# Altium schematic symbol library Evaluation Board.SchLib: 189 symbols (part 1 of 2)
Pins are listed as number, name and electrical type; pins without a type are passive.

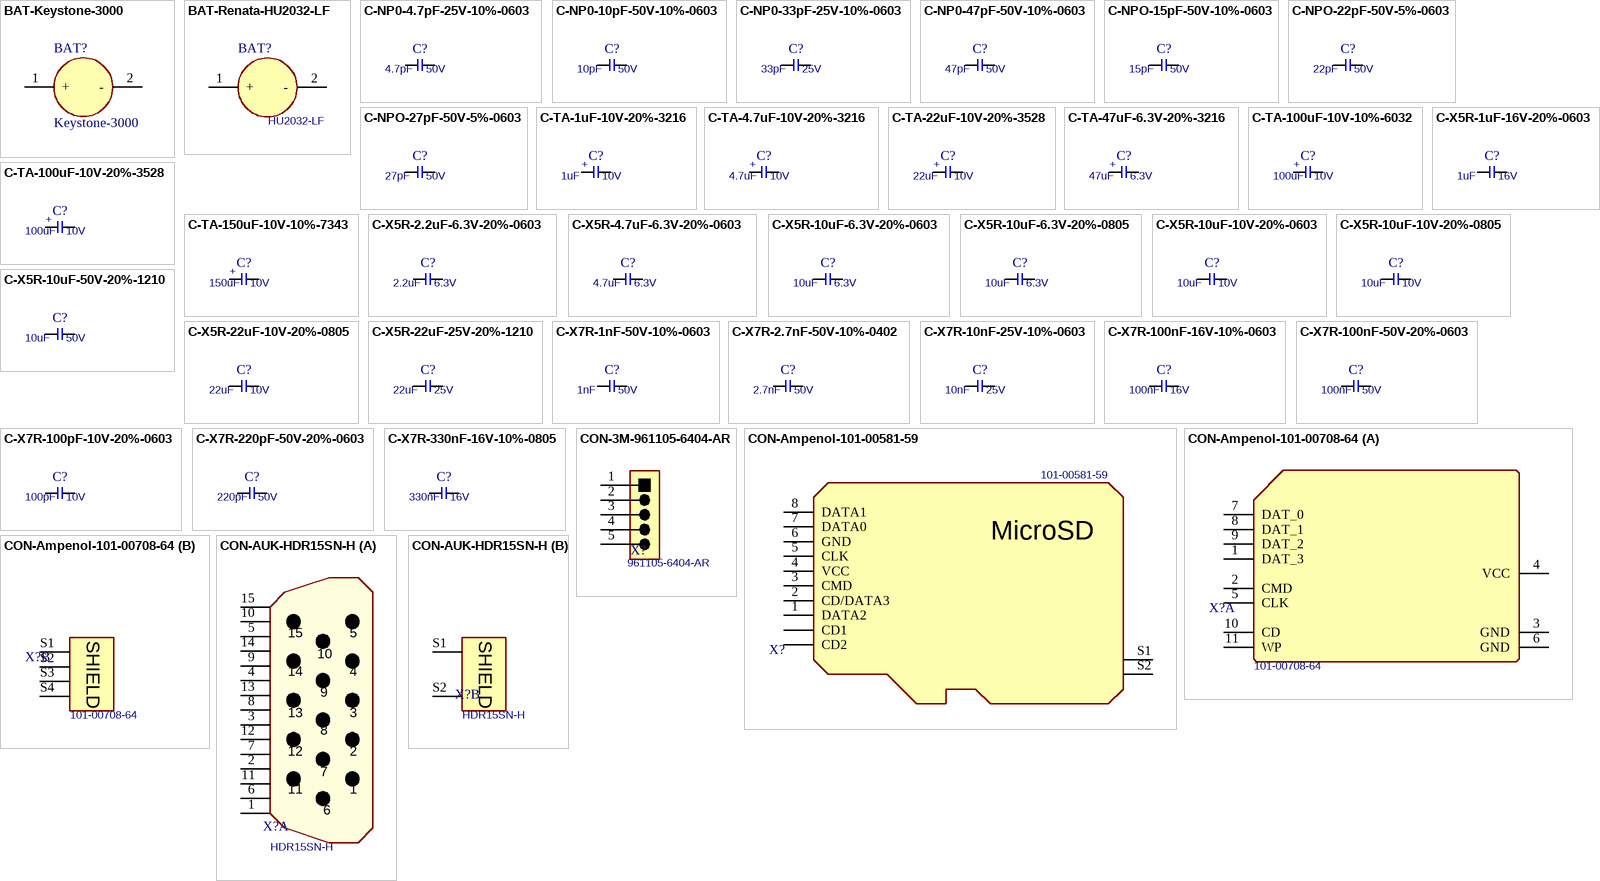
[diagram p0: symbols BAT-Keystone-3000 to CON-AUK-HDR15SN-H]

## BAT-Keystone-3000
designator BAT?, comment Keystone-3000
Battery Holder; Manufacturer Part No.: 3000; Manufacturer Name: Keystone
footprint T_Keystone_3000 (Battery Holder)
pins: 1 +, 2 -

## BAT-Renata-HU2032-LF
designator BAT?, comment HU2032-LF
C2032 Battery Holder; Manufacturer Name: Renata; Manufacturer Part No.: HU2032-LF
footprint T_Renata_HU2032-LF (Battery Holder)
pins: 1 +, 2 -

## C-NP0-4.7pF-25V-10%-0603
designator C?, comment Rating: 50V  (hidden comment: 4.7pF)
Capacitor Ceramic NP0  4.7pF 25V 10% 0603; Tolerance: 10%; Type: NP0; Value: 4.7pF
footprint T_CAPC0603X33N
pins: 1, 2

## C-NP0-10pF-50V-10%-0603
designator C?, comment Rating: 50V  (hidden comment: 10pF)
Capacitor Ceramic NP0 10pF 50V 10% 0603; Tolerance: 10%; Type: NP0; Value: 10pF
footprint T_CAPC0603X33N
pins: 1, 2

## C-NP0-33pF-25V-10%-0603
designator C?, comment Rating: 25V  (hidden comment: 33pF)
Capacitor Ceramic NP0 33pF 25V 10% 0603; Tolerance: 10%; Type: NP0; Value: 33pF
footprint T_CAPC0603X33N
pins: 1, 2

## C-NP0-47pF-50V-10%-0603
designator C?, comment Rating: 50V  (hidden comment: 47pF)
Capacitor Ceramic NP0 47pF 50V 10% 0603; Tolerance: 10%; Type: NP0; Value: 47pF
footprint T_CAPC0603X33N
pins: 1, 2

## C-NPO-15pF-50V-10%-0603
designator C?, comment Rating: 50V  (hidden comment: 15pF)
Capacitor Ceramic NPO 15pF 50V 10% 0603; Tolerance: 10%; Type: NPO; Value: 15pF
footprint T_CAPC0603X33N
pins: 1, 2

## C-NPO-22pF-50V-5%-0603
designator C?, comment Rating: 50V  (hidden comment: 22pF)
Capacitor Ceramic NPO 22pF 50V 5% 0603; Tolerance: 5%; Type: NPO; Value: 22pF
footprint T_CAPC0603X33N
pins: 1, 2

## C-NPO-27pF-50V-5%-0603
designator C?, comment Rating: 50V  (hidden comment: 27pF)
Capacitor Ceramic NPO 27pF 50V 5% 0603; Tolerance: 5%; Type: NPO; Value: 27pF
footprint T_CAPC0603X33N
pins: 1, 2

## C-TA-1uF-10V-20%-3216
designator C?, comment Rating: 10V  (hidden comment: 1uF)
Capacitor TA 1uF 10V 20% 3216; Tolerance: 20%; Type: TA; Value: 1uF
footprint T_CAPMP3216X180N
pins: 1, 2
text: +

## C-TA-4.7uF-10V-20%-3216
designator C?, comment Rating: 10V  (hidden comment: 4.7uF)
Capacitor TA 4.7uF 10V 20% 3216; Tolerance: 20%; Type: TA; Value: 4.7uF
footprint T_CAPMP3216X180N
pins: 1, 2
text: +

## C-TA-22uF-10V-20%-3528
designator C?, comment Rating: 10V  (hidden comment: 22uF)
Capacitor TA 22uF 10V 20% 3528; Tolerance: 20%; Type: TA; Value: 22uF
footprint CAPMP3528X210N
pins: 1, 2
text: +

## C-TA-47uF-6.3V-20%-3216
designator C?, comment Rating: 6.3V  (hidden comment: 47uF)
Capacitor TA 47uF 6.3V 20% 3216; Tolerance: 20%; Type: TA; Value: 47uF
footprint CAPMP3528X210N
pins: 1, 2
text: +

## C-TA-100uF-10V-10%-6032
designator C?, comment Rating: 10V  (hidden comment: 100uF)
Capacitor TA 100uF 10V 10% 6032; Tolerance: 10%; Type: TA; Value: 100uF
footprint CAPMP6032X280N (Cap Polarized 6032)
pins: 1, 2
text: +

## C-TA-100uF-10V-20%-3528
designator C?, comment Rating: 10V  (hidden comment: 100uF)
Capacitor TA 100uF 10V 20% 3528; Tolerance: 20%; Type: TA; Value: 100uF
footprint CAPMP3528X210N
pins: 1, 2
text: +

## C-TA-150uF-10V-10%-7343
designator C?, comment Rating: 10V  (hidden comment: 150uF)
Capacitor TA 150uF 10V 20% 7343; Tolerance: 10%; Type: TA; Value: 150uF
footprint CAPMP7343X310N
pins: 1, 2
text: +

## C-X5R-1uF-16V-20%-0603
designator C?, comment Rating: 16V  (hidden comment: 1uF)
Capacitor Ceramic X5R 1uF 16V 20% 0603; Tolerance: 20%; Type: X5R; Value: 1uF
footprint T_CAPC0603X33N
pins: 1, 2

## C-X5R-2.2uF-6.3V-20%-0603
designator C?, comment Rating: 6.3V  (hidden comment: 2.2uF)
Capacitor Ceramic X5R 2.2uF 6.3V 20% 0603; Tolerance: 20%; Type: X5R; Value: 2.2uF
footprint T_CAPC0603X33N
pins: 1, 2

## C-X5R-4.7uF-6.3V-20%-0603
designator C?, comment Rating: 6.3V  (hidden comment: 4.7uF)
Capacitor Ceramic X5R 4.7uF 6.3V 20% 0603; Tolerance: 20%; Type: X5R; Value: 4.7uF
footprint T_CAPC0603X33N
pins: 1, 2

## C-X5R-10uF-6.3V-20%-0603
designator C?  value 10uF  Rating: 6.3V
Capacitor Ceramic X5R 10uF 6.3V 20% 0603; Tolerance: 20%; Type: X5R
footprint T_CAPC0603X33N
pins: 1, 2

## C-X5R-10uF-6.3V-20%-0805
designator C?, comment Rating: 6.3V  (hidden comment: 10uF)
Capacitor Ceramic X5R 10uF 6.3V 20% 0805; Tolerance: 20%; Type: X5R; Value: 10uF
footprint T_CAPC0805X125N
pins: 1, 2

## C-X5R-10uF-10V-20%-0603
designator C?  value 10uF  Rating: 10V
Capacitor Ceramic X5R 10uF 10V 20% 0603; Tolerance: 20%; Type: X5R
footprint T_CAPC0603X33N
pins: 1, 2

## C-X5R-10uF-10V-20%-0805
designator C?, comment Rating: 10V  (hidden comment: 10uF)
Capacitor Ceramic X5R 10uF 10V 20% 0805; Tolerance: 20%; Type: X5R; Value: 10uF
footprint T_CAPC0805X125N
pins: 1, 2

## C-X5R-10uF-50V-20%-1210
designator C?, comment Rating: 50V  (hidden comment: 10uF)
Capacitor Ceramic X5R 10uF 50V 20% 1210; Tolerance: 20%; Type: X5R; Value: 10uF
footprint CAPC3225X160N
pins: 1, 2

## C-X5R-22uF-10V-20%-0805
designator C?, comment Rating: 10V  (hidden comment: 22uF)
Capacitor Ceramic X5R 22uF 10V 20% 0805; Tolerance: 20%; Type: X5R; Value: 22uF
footprint T_CAPC0805X125N
pins: 1, 2

## C-X5R-22uF-25V-20%-1210
designator C?, comment Rating: 25V  (hidden comment: 22uF)
Capacitor Ceramic X5R 22uF 25V 20% 1210; Tolerance: 20%; Type: X5R; Value: 22uF
footprint CAPC3225X160N
pins: 1, 2

## C-X7R-1nF-50V-10%-0603
designator C?, comment Rating: 50V  (hidden comment: 1nF)
Capacitor Ceramic X7R 1nF 50V 10% 0603; Tolerance: 10%; Type: X7R; Value: 1nF
footprint T_CAPC0603X33N
pins: 1, 2

## C-X7R-2.7nF-50V-10%-0402
designator C?, comment Rating: 50V  (hidden comment: 2.7nF)
Capacitor Ceramic X7R 2.7nF 50V 10% 0402; Tolerance: 10%; Type: X7R; Value: 2.7nF
footprint CAPC1005X60N
pins: 1, 2

## C-X7R-10nF-25V-10%-0603
designator C?, comment Rating: 25V  (hidden comment: 10nF)
Capacitor Ceramic X7R 10nF 25V 10% 0603; Tolerance: 10%; Type: X7R; Value: 10nF
footprint T_CAPC0603X33N
pins: 1, 2

## C-X7R-100nF-16V-10%-0603
designator C?, comment Rating: 16V  (hidden comment: 100nF)
Capacitor Ceramic X7R 100nF 16V 10% 0603; Tolerance: 10%; Type: X7R; Value: 100nF
footprint T_CAPC0603X33N
pins: 1, 2

## C-X7R-100nF-50V-20%-0603
designator C?, comment Rating: 50V  (hidden comment: 100nF)
Capacitor Ceramic X7R 100nF 50V 20% 0603; Tolerance: 20%; Type: X7R; Value: 100nF
footprint T_CAPC0603X33N
pins: 1, 2

## C-X7R-100pF-10V-20%-0603
designator C?, comment Rating: 10V  (hidden comment: 100pF)
Capacitor Ceramic X7R 100pF 10V 20% 0603; Tolerance: 20%; Type: X7R; Value: 100pF
footprint T_CAPC0603X33N
pins: 1, 2

## C-X7R-220pF-50V-20%-0603
designator C?, comment Rating: 50V  (hidden comment: 220pF)
Capacitor Ceramic X7R 220pF 50V 20% 0603; Tolerance: 20%; Type: X7R; Value: 220pF
footprint T_CAPC0603X33N
pins: 1, 2

## C-X7R-330nF-16V-10%-0805
designator C?, comment Rating: 16V  (hidden comment: 330nF)
Capacitor Ceramic X7R 330nF 16V 10% 0805; Tolerance: 10%; Type: X7R; Value: 330nF
footprint T_CAPC0805X125N
pins: 1, 2

## CON-3M-961105-6404-AR
designator X?, comment 961105-6404-AR
Audio Header 5 pins 2.54mm; Manufacturer Name: 3M; No. of ways: 1X5; Pitch: 2.54mm; Manufacturer Part No.: 961105-6404-AR
footprint T_3M_961105-6404-AR (Connector; Header; 35 Position)
pins: 1, 2, 3, 4, 5

## CON-Ampenol-101-00581-59
designator X?, comment Manufacturer Part No.: 101-00581-59  (hidden comment: MicroSD Holder)
Micro SD Holder Push Push CD; Manufacturer Name: Ampenol; No. of ways: 9
footprint T_Ampenol_101-00581-59 (MicroSD Holder top-loading type)
pins: 1 DATA2 (power), 2 CD/DATA3, 3 CMD, 4 VCC, 5 CLK (power), 6 GND (power), 7 DATA0 (power), 8 DATA1 (power), CD1 (power), CD2 (power), S1 S, S2 S
text: MicroSD

## CON-Ampenol-101-00708-64
designator X?, comment Manufacturer Part No.: 101-00708-64  (hidden comment: MicroSD Holder)
SD/MMC Card Holder; Manufacturer Name: Ampenol; No. of ways: 9
footprint T_ AMPHENOL_101-00708-64 (SD/MMC Card Holder)
part A pins: 1 DAT_3 (power), 2 CMD, 3 GND, 4 VCC, 5 CLK (power), 6 GND (power), 7 DAT_0 (power), 8 DAT_1 (power), 9 DAT_2 (power), 10 CD (power), 11 WP (power)
part B pins: S1 S, S2 S, S3 S, S4 S
part B text: SHIELD

## CON-AUK-HDR15SN-H
designator X?, comment HDR15SN-H
15 pin male D-SUB connector; Manufacturer Name: AUK; No. of ways: 15; Manufacturer Part No.: HDR15SN-H
footprint T_AUK_HDR15SN-H (15 pin male D-SUB connector)
part A pins: 1 DCD, 2 RXD, 3 TXD, 4 DTR, 5 GND, 6 DSR, 7 RTS, 8 CTS, 9 RI, 10 RI, 11 RI, 12 RI, 13 RI, 14 RI, 15 RI
part B pins: S1 SHIELD, S2 SHIELD

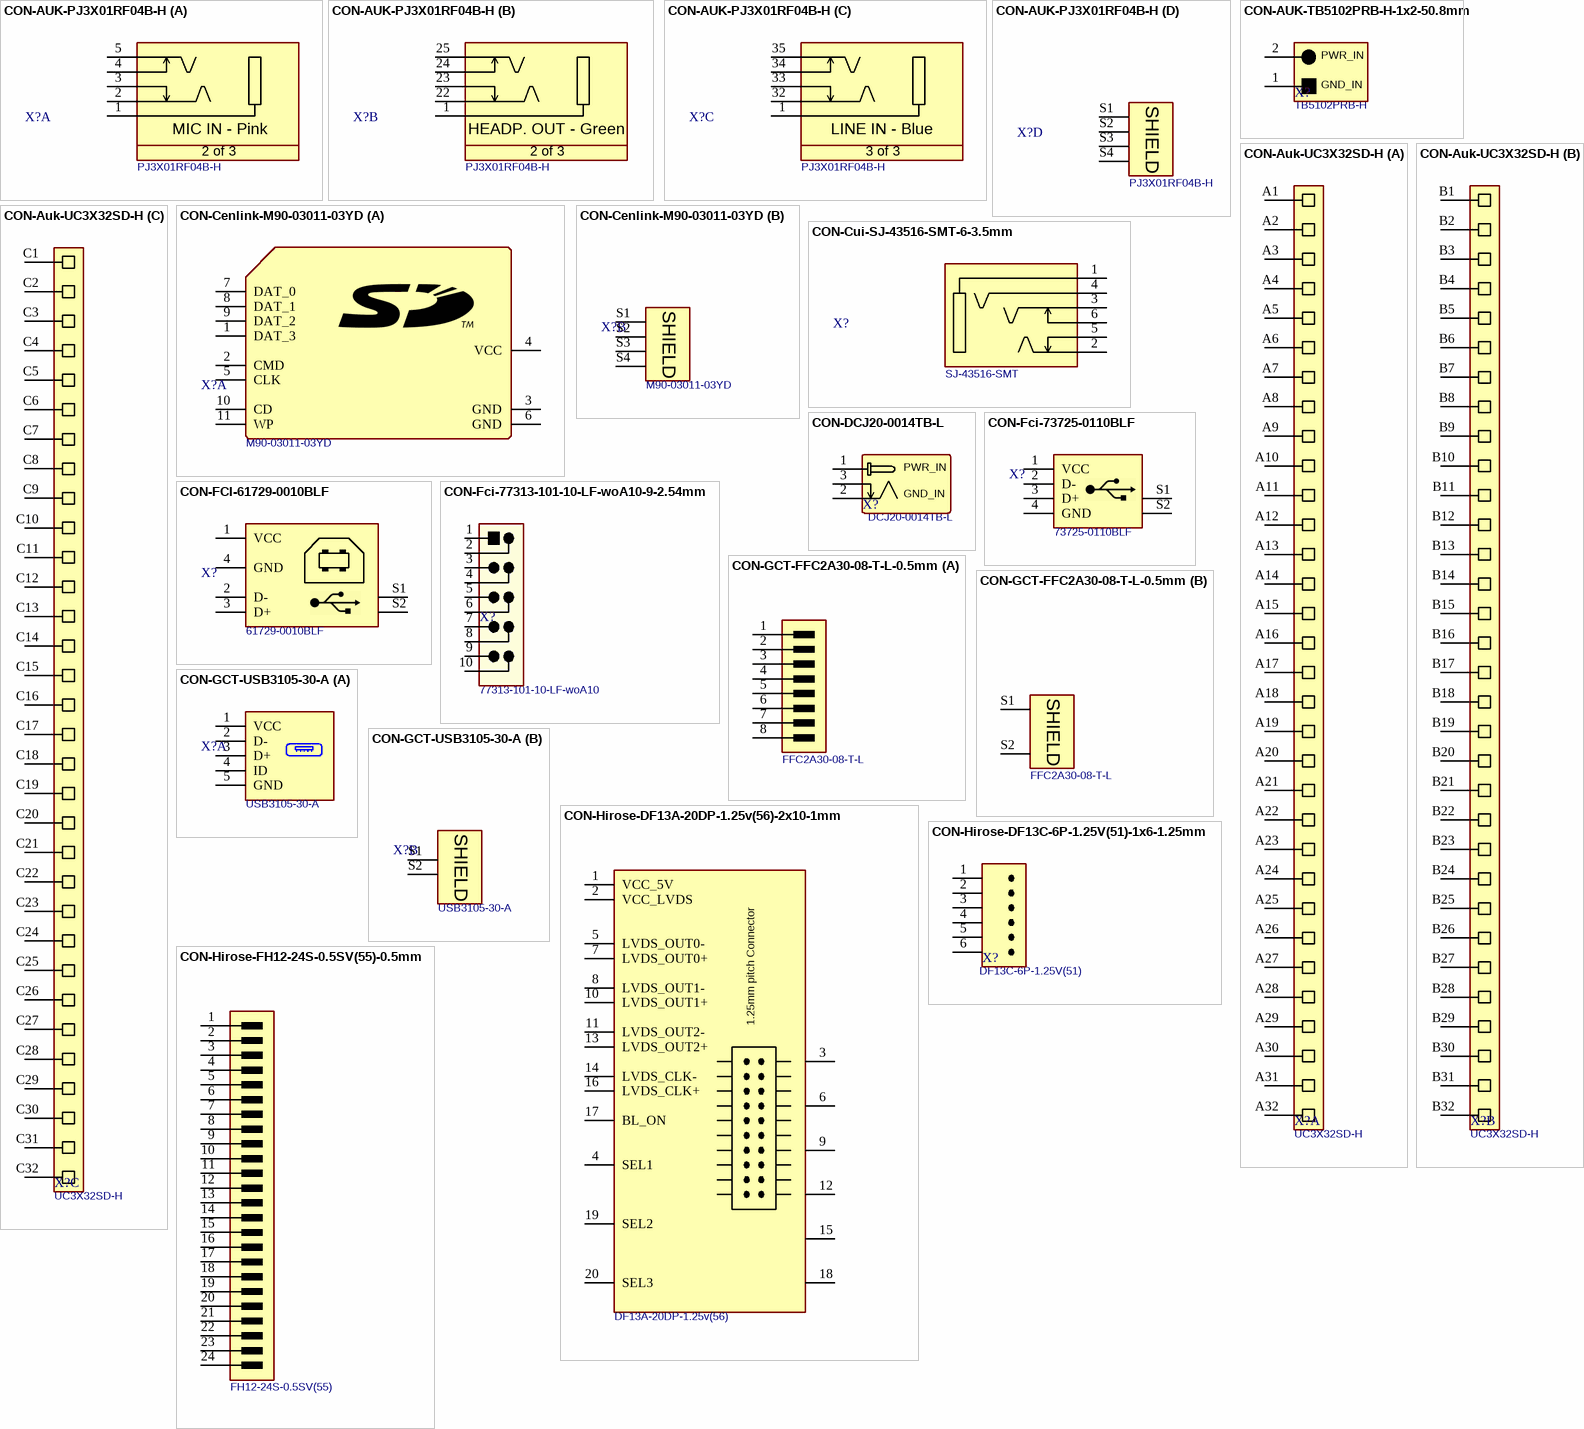
[diagram p1: symbols CON-AUK-PJ3X01RF04B-H to CON-Hirose-FH12-24S-0.5SV(55)-0.5mm]

## CON-AUK-PJ3X01RF04B-H
designator X?, comment Manufacturer Part No.: PJ3X01RF04B-H  (hidden comment: AUK-PJ3X01RF04B-H)
3x Audiojack stereo, 3.5mm; Manufacturer Name: AUK; No. of ways: 13
footprint T_AUK_PJ3X01RF04B-H (Audio Jack Triple Stacked DIP Type)
part A pins: 1, 2, 3, 4, 5
part B pins: 1, 22, 23, 24, 25
part C pins: 1, 32, 33, 34, 35
part D pins: S1 SHIELD, S2 SHIELD, S3 SHIELD, S4 SHIELD
part A text: MIC IN - Pink; 2 of 3
part B text: HEADP. OUT - Green; 2 of 3
part C text: LINE IN - Blue; 3 of 3

## CON-AUK-TB5102PRB-H-1x2-50.8mm
designator X?, comment TB5102PRB-H
Power Connector; Manufacturer Name: AUK; No. of ways: 1x2; Pitch: 5.08mm; Manufacturer Part No.: TB5102PRB-H
footprint T_AUK_TB5102PRB-H (Power Connector 5.08mm pitch)
pins: 1 GND_IN, 2 PWR_IN

## CON-Auk-UC3X32SD-H
designator X?, comment UC3X32SD-H
Header Female 3x32 pin 2.54mm; Manufacturer Name: Auk; Pitch: 2.54mm; No. of ways: 3x32; Manufacturer Part No.: UC3X32SD-H
footprint T_AUK_UC3X32SD-H (Header, 3x32 Pins, 2.54 mm pitch)
part A pins: A1, A2, A3, A4, A5, A6, A7, A8, A9, A10, A11, A12, A13, A14, A15, A16, A17, A18, A19, A20, A21, A22, A23, A24, A25, A26, A27, A28, A29, A30, A31, A32
part B pins: B1, B2, B3, B4, B5, B6, B7, B8, B9, B10, B11, B12, B13, B14, B15, B16, B17, B18, B19, B20, B21, B22, B23, B24, B25, B26, B27, B28, B29, B30, B31, B32
part C pins: C1, C2, C3, C4, C5, C6, C7, C8, C9, C10, C11, C12, C13, C14, C15, C16, C17, C18, C19, C20, C21, C22, C23, C24, C25, C26, C27, C28, C29, C30, C31, C32

## CON-Cenlink-M90-03011-03YD
designator X?, comment Manufacturer Part No.: M90-03011-03YD  (hidden comment: MicroSD Holder)
SD/MMC Card Holder; Manufacturer Name: Cenlink; No. of ways: 9+2
footprint T_ AMPHENOL_101-00708-64 (SD/MMC Card Holder)
part A pins: 1 DAT_3 (power), 2 CMD, 3 GND, 4 VCC, 5 CLK (power), 6 GND (power), 7 DAT_0 (power), 8 DAT_1 (power), 9 DAT_2 (power), 10 CD (power), 11 WP (power)
part B pins: S1 S, S2 S, S3 S, S4 S
part B text: SHIELD

## CON-Cui-SJ-43516-SMT-6-3.5mm
designator X?, comment SJ-43516-SMT
3.5mm Stereo Jack SMD With Detect Contact; Manufacturer Name: Cui INC; No. of ways: 6; Manufacturer Part No.: SJ-43516-SMT
footprint T_CI_SJ-43516-SMT (STEREO_3.5mm AUDIO JACK  CUI)
pins: 1, 2, 3, 4, 5, 6

## CON-DCJ20-0014TB-L
designator X?, comment DCJ20-0014TB-L
Power Jack; Manufacturer Part No.: DCJ20-0014TB-L
footprint T_DCJ20-0014TB-L (Header, 1x2 Pins, 2.54 mm pitch, male)
pins: 1 GND_IN, 2 PWR_IN, 3 PWR_IN

## CON-FCI-61729-0010BLF
designator X?, comment 61729-0010BLF
USB Type B Connector; Manufacturer Name: FCI; No. of ways: 4; Manufacturer Part No.: 61729-0010BLF
footprint T_FCI_61729-0010BLF (USB Type B Connectors)
pins: 1 VCC (power), 2 D-, 3 D+, 4 GND (power), S1, S2

## CON-Fci-73725-0110BLF
designator X?  Manufacturer Part No.: 73725-0110BLF
USB Type A Connector; Manufacturer Name: FCI; No. of ways: 4
footprint T_FCI_73725-0110BLF (USB Type A Connector Vertical)
pins: 1 VCC (power), 2 D-, 3 D+, 4 GND (power), S1, S2

## CON-Fci-77313-101-10-LF-woA10-9-2.54mm
designator X?, comment 77313-101-10-LF-woA10
RS232 Header; Manufacturer Name: FCI; No. of ways: 9; Manufacturer Part No.: 77313-101-10-LF-woA10
footprint T_FCI_77313-101-10-LF-woA10 (2.54 mm header)
pins: 1, 2, 3, 4, 5, 6, 7, 8, 9, 10

## CON-GCT-FFC2A30-08-T-L-0.5mm
designator X?, comment FFC2A30-08-T-L
0.50mm Pitch FFC/FPC JTAG Connector Vertical; Manufacturer Name: GCT; No. of ways: 8; Pitch: 0.5mm; Manufacturer Part No.: FFC2A30-08-T-L
footprint T_GCT_FFC2A30-08-T-L (JTAG FFC Connector 0.5mm pitch vertical)
part A pins: 1, 2, 3, 4, 5, 6, 7, 8
part B pins: S1 SHIELD, S2 SHIELD

## CON-GCT-USB3105-30-A
designator X?  Manufacturer Part No.: USB3105-30-A
Micro USB OTG Connector - TH - Vertical; Manufacturer Name: GCT; No. of ways: 5
footprint T_GCT_USB3105-30-A (Micro USB Connector Vertical)
part A pins: 1 VCC (power), 2 D-, 3 D+, 4 ID, 5 GND (power)
part B pins: S1 SHIELD, S2 SHIELD

## CON-Hirose-DF13A-20DP-1.25v(56)-2x10-1mm
designator X?  Manufacturer Part No.: DF13A-20DP-1.25v(56)  (hidden comment: CON-Hirose-DF13A-20DP-1.25v(56)-2x10-1mm)
LVDS Connector; Manufacturer Name: Hirose; No. of ways: 2x10; Pitch: 1mm
footprint T_HIROSE_DF13A-20DP-1.25V(56)
pins: 1 VCC_5V, 2 VCC_LVDS, 3 GND, 4 SEL1, 5 LVDS_OUT0-, 6 GND, 7 LVDS_OUT0+, 8 LVDS_OUT1-, 9 GND, 10 LVDS_OUT1+, 11 LVDS_OUT2-, 12 GND, 13 LVDS_OUT2+, 14 LVDS_CLK-, 15 GND, 16 LVDS_CLK+, 17 BL_ON, 18 GND, 19 SEL2, 20 SEL3
text: 1.25mm pitch Connector

## CON-Hirose-DF13C-6P-1.25V(51)-1x6-1.25mm
designator X?, comment DF13C-6P-1.25V(51)
Touch Connector; Manufacturer Name: Hirose; No. of ways: 1X6; Pitch: 1.25mm; Manufacturer Part No.: DF13C-6P-1.25V(51)
footprint T_HIROSE_DF13C-6P-1.25V(51) (Touch connector)
pins: 1 GND, 2 TSMY, 3 TSPY, 4 TSMX, 5 TSPX, 6 WIPER

## CON-Hirose-FH12-24S-0.5SV(55)-0.5mm
designator X?, comment FH12-24S-0.5SV(55)
0.50mm Pitch FFC/FPC Vertical DVI Connector; Manufacturer Name: Hirose; No. of ways: 24; Pitch: 0.5mm; Manufacturer Part No.: FH12-24S-0.5SV(55)
footprint T_Hirose_FH12-24S-0.5SV(55) (FFC Connector 0.5mm pitch Vertical)
pins: 1 GND, 2 TMDS_CLK_P, 3 TMDS_CLK_N, 4 GND, 5 TMDS_DATA0_P, 6 TMDS_DATA0_N, 7 GND, 8 TMDS_DATA1_P, 9 TMDS_DATA1_N, 10 GND, 11 TMDS_DATA2_P, 12 TMDS_DATA2_N, 13 VDD, 14 HOTPLUG_DETECT, 15 DDC_CLK, 16 DDC_DATA, 17 GND, 18 CRT_RED, 19 GND, 20 CRT_GREEN, 21 GND, 22 CRT_BLUE, 23 CRT_VSYNC, 24 CRT_HSYNC

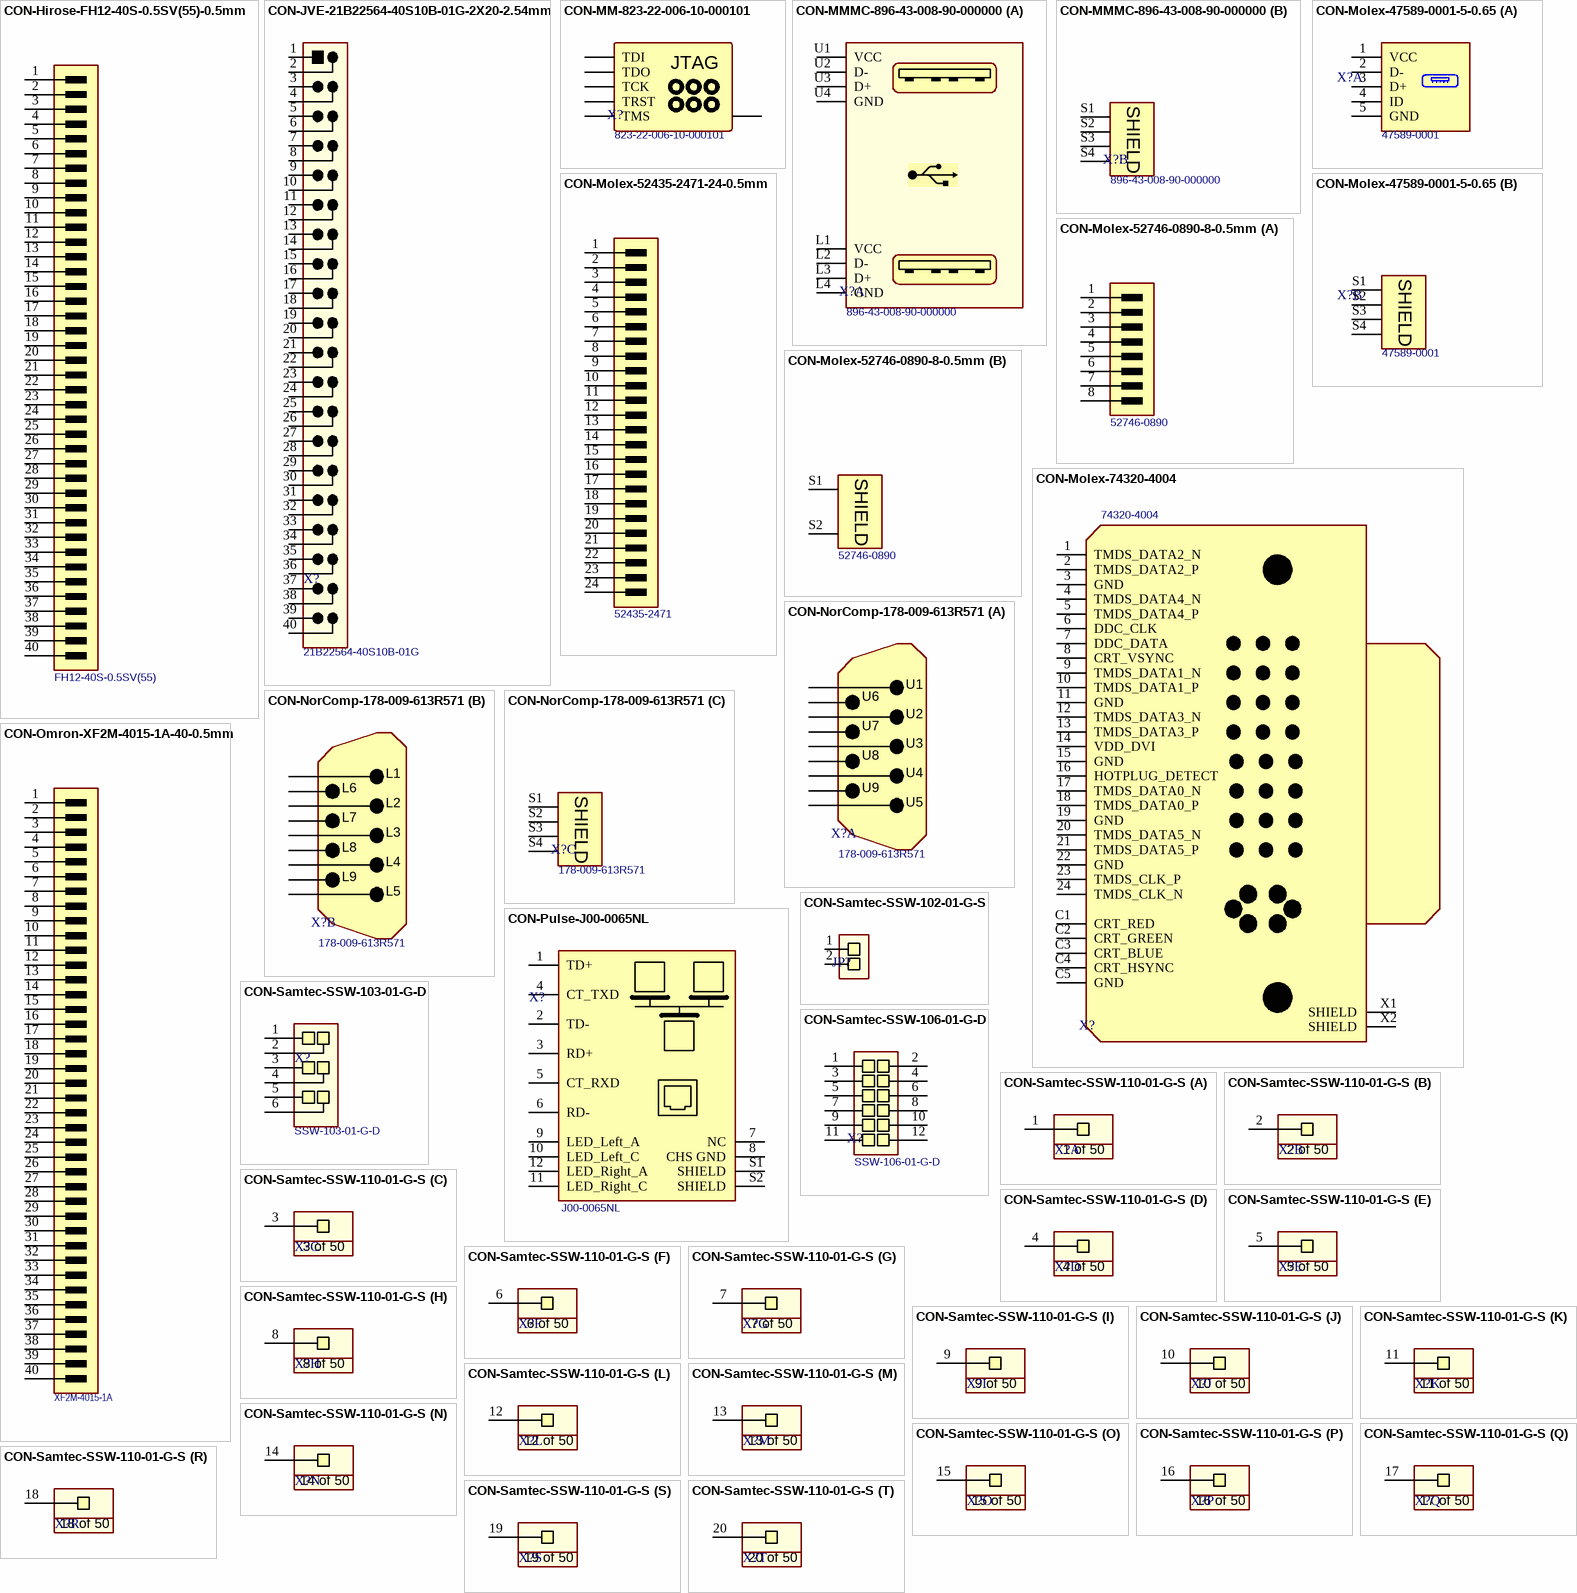
[diagram p2: symbols CON-Hirose-FH12-40S-0.5SV(55)-0.5mm to CON-Samtec-SSW-110-01-G-S]

## CON-Hirose-FH12-40S-0.5SV(55)-0.5mm
designator X?, comment FH12-40S-0.5SV(55)
0.50mm Pitch FFC/FPC Vertical RGB connector; Manufacturer Name: Hirose; No. of ways: 24; Pitch: 0.5mm; Manufacturer Part No.: FH12-40S-0.5SV(55)
footprint T_Hirose_FH12-40S-0.5SV(55) (FFC Connector 0.5mm pitch Vertical)
pins: 1 VSS (power), 2 VSS (power), 3 VCC (power), 4 VCC (power), 5 PWCTRL, 6 LEDCTRL, 7 RESET#, 8 B5, 9 B4, 10 B3, 11 B2, 12 B1, 13 B0, 14 VSS, 15 G5, 16 G4, 17 G3, 18 G2, 19 G1, 20 G0, 21 VSS, 22 R5, 23 R4, 24 R3, 25 R2, 26 R1, 27 R0, 28 DCLK, 29 VSS, 30 HSYNC, 31 VSYNC, 32 ENB, 33 NC, 34 SHUT, 35 VSS, 36 VDD, 37 YU, 38 XR, 39 YD, 40 XL

## CON-JVE-21B22564-40S10B-01G-2X20-2.54mm
designator X?, comment 21B22564-40S10B-01G
2X20 PIN Header 2.54mm; Manufacturer Name: JVE; No. of ways: 2X20; Manufacturer Part No.: 21B22564-40S10B-01G
footprint T_JVE_21B22564-40S10B-01G (Header 2x20)
pins: 1, 2, 3, 4, 5, 6, 7, 8, 9, 10, 11, 12, 13, 14, 15, 16, 17, 18, 19, 20, 21, 22, 23, 24, 25, 26, 27, 28, 29, 30, 31, 32, 33, 34, 35, 36, 37, 38, 39, 40

## CON-MM-823-22-006-10-000101
designator X?  Manufacturer Part No.: 823-22-006-10-000101  (hidden comment: *)
JTAG Pogo pins; Manufacturer Name: Mill-Max
footprint T_MILL-MAX_823-22-006-10-000101 (Pogo Pins)
pins: 1 TDI, 2 TDO, 3 TCK, 4 TRST, 5 TMS, 6
text: JTAG

## CON-MMMC-896-43-008-90-000000
designator X?, comment 896-43-008-90-000000
USB 2.0 double row, Type A; Manufacturer Name: Mill-Max Mfg. Corp.; No. of ways: 8; Manufacturer Part No.: 896-43-008-90-000000
footprint T_MMMC_896-43-008-90-000000 (USB 2.0 double row, Type A)
part A pins: L1 VCC (power), L2 D-, L3 D+, L4 GND (power), U1 VCC (power), U2 D-, U3 D+, U4 GND (power)
part B pins: S1 SHIELD, S2 SHIELD, S3 SHIELD, S4 SHIELD

## CON-Molex-47589-0001-5-0.65
designator X?  Manufacturer Part No.: 47589-0001
Micro USB OTG Connector; Manufacturer Name: Molex; No. of ways: 5
footprint T_Molex_47589-0001 (Micro USB Connector)
part A pins: 1 VCC (power), 2 D-, 3 D+, 4 ID, 5 GND (power)
part B pins: S1 SHIELD, S2 SHIELD, S3 SHIELD, S4 SHIELD

## CON-Molex-52435-2471-24-0.5mm
designator X?, comment 52435-2471
0.50mm Pitch FFC/FPC DVI Connector; Manufacturer Name: Molex; No. of ways: 24; Pitch: 0.5mm; Manufacturer Part No.: 52435-2471
footprint T_MOLEX_52435-2471 (DVI FFC Connector 0.5mm pitch)
pins: 1 GND, 2 TMDS_CLK_P, 3 TMDS_CLK_N, 4 GND, 5 TMDS_DATA0_P, 6 TMDS_DATA0_N, 7 GND, 8 TMDS_DATA1_P, 9 TMDS_DATA1_N, 10 GND, 11 TMDS_DATA2_P, 12 TMDS_DATA2_N, 13 VDD, 14 HOTPLUG_DETECT, 15 DDC_CLK, 16 DDC_DATA, 17 GND, 18 CRT_RED, 19 GND, 20 CRT_GREEN, 21 GND, 22 CRT_BLUE, 23 CRT_VSYNC, 24 CRT_HSYNC

## CON-Molex-52746-0890-8-0.5mm
designator X?, comment 52746-0890
0.50mm Pitch FFC/FPC JTAG Connector; Manufacturer Name: Molex; No. of ways: 8; Pitch: 0.5mm; Manufacturer Part No.: 52746-0890
footprint T_MOLEX_52746-0890 (JTAG FFC Connector 0.5mm pitch)
part A pins: 1, 2, 3, 4, 5, 6, 7, 8
part B pins: S1 SHIELD, S2 SHIELD

## CON-Molex-74320-4004
designator X?, comment 74320-4004
DVI-Connectors; Manufacturer Name: Molex; No. of ways: 31; Manufacturer Part No.: 74320-4004
footprint T_Molex_74320-1004 (DVI-Connectors)
pins: 1 TMDS_DATA2_N, 2 TMDS_DATA2_P, 3 GND, 4 TMDS_DATA4_N, 5 TMDS_DATA4_P, 6 DDC_CLK, 7 DDC_DATA, 8 CRT_VSYNC, 9 TMDS_DATA1_N, 10 TMDS_DATA1_P, 11 GND, 12 TMDS_DATA3_N, 13 TMDS_DATA3_P, 14 VDD_DVI, 15 GND, 16 HOTPLUG_DETECT, 17 TMDS_DATA0_N, 18 TMDS_DATA0_P, 19 GND, 20 TMDS_DATA5_N, 21 TMDS_DATA5_P, 22 GND, 23 TMDS_CLK_P, 24 TMDS_CLK_N, C1 CRT_RED, C2 CRT_GREEN, C3 CRT_BLUE, C4 CRT_HSYNC, C5 GND, X1 SHIELD, X2 SHIELD

## CON-NorComp-178-009-613R571
designator X?, comment 178-009-613R571
RS232 Connector 9 pins male; Manufacturer Name: NorComp; No. of Ways: 18; Manufacturer Part No.: 178-009-613R571
footprint T_NorComp_178-YYY-613R691 (0.750 Center Dual Port D-Sub - Male over Male)
part A pins: U1 DCD, U2 RXD, U3 TXD, U4 DTR, U5 GND, U6 DSR, U7 RTS, U8 CTS, U9 RI
part B pins: L1 DCD, L2 RXD, L3 TXD, L4 DTR, L5 GND, L6 DSR, L7 RTS, L8 CTS, L9 RI
part C pins: S1 SHIELD, S2 SHIELD, S3 SHIELD, S4 SHIELD

## CON-Omron-XF2M-4015-1A-40-0.5mm
designator X?, comment XF2M-4015-1A
RGB Connector; Manufacturer Name: Omron; No. of ways: 40; Pitch: 0.5mm; Manufacturer Part No.: XF2M-4015-1A
footprint T_Omron_XF2M-4015-1A (DVI FFC Connector 0.5mm pitch)
pins: 1 VSS (power), 2 VSS (power), 3 VCC (power), 4 VCC (power), 5 PWCTRL, 6 LEDCTRL, 7 RESET#, 8 B5, 9 B4, 10 B3, 11 B2, 12 B1, 13 B0, 14 VSS, 15 G5, 16 G4, 17 G3, 18 G2, 19 G1, 20 G0, 21 VSS, 22 R5, 23 R4, 24 R3, 25 R2, 26 R1, 27 R0, 28 DCLK, 29 VSS, 30 HSYNC, 31 VSYNC, 32 ENB, 33 NC, 34 SHUT, 35 VSS, 36 VDD, 37 YU, 38 XR, 39 YD, 40 XL

## CON-Pulse-J00-0065NL
designator X?, comment J00-0065NL
RJ45 Connector; Manufacturer Name: Pulse; No. of ways: 12; Manufacturer Part No.: J00-0065NL
footprint T_Pulse_J00-0065NL (RJ45 Connector)
pins: 1 TD+, 2 TD-, 3 RD+, 4 CT_TXD, 5 CT_RXD, 6 RD-, 7 NC, 8 CHS GND, 9 LED_Left_A, 10 LED_Left_C, 11 LED_Right_C, 12 LED_Right_A, S1 SHIELD, S2 SHIELD

## CON-Samtec-SSW-102-01-G-S
designator JP?, comment SSW-102-01-G-S  (value not drawn)
Receptacle Female, 1x2 Pins, 2.54 mm pitch; Manufacturer Name: Samtec; Pitch: 2.54 mm; No. of ways: 1x2; Manufacturer Part no.: SSW-102-01-G-S
footprint T_Samtec_SSW-102-01-G-S (Header, 1x50 Pins, 2.54 mm pitch)
pins: 1, 2

## CON-Samtec-SSW-103-01-G-D
designator X?, comment Manufacturer Part No.: SSW-103-01-G-D  (hidden comment: TSW-103-01-G-D)
Header Female, 2x3 Pins, 2.54mm pitch; Manufacturer Name: Samtec; No. of ways: 2x3; Pitch: 2.54mm
footprint T_Samtec_SSW-103-01-G-D (Header, 2x3 Pins, 2.54 mm pitch)
pins: 1, 2, 3, 4, 5, 6

## CON-Samtec-SSW-106-01-G-D
designator X?, comment SSW-106-01-G-D
Header Female, 2x6 Pins, 2.54 mm pitch; Manufacturer Name: Samtec; Pitch: 2.54mm; No. of wasy: 2x6; Manufacturer Part No.: SSW-106-01-G-D
footprint T_Samtec_SSW-106-01-G-D (Header, 2x6 Pins, 2.54 mm pitch)
pins: 1, 2, 3, 4, 5, 6, 7, 8, 9, 10, 11, 12

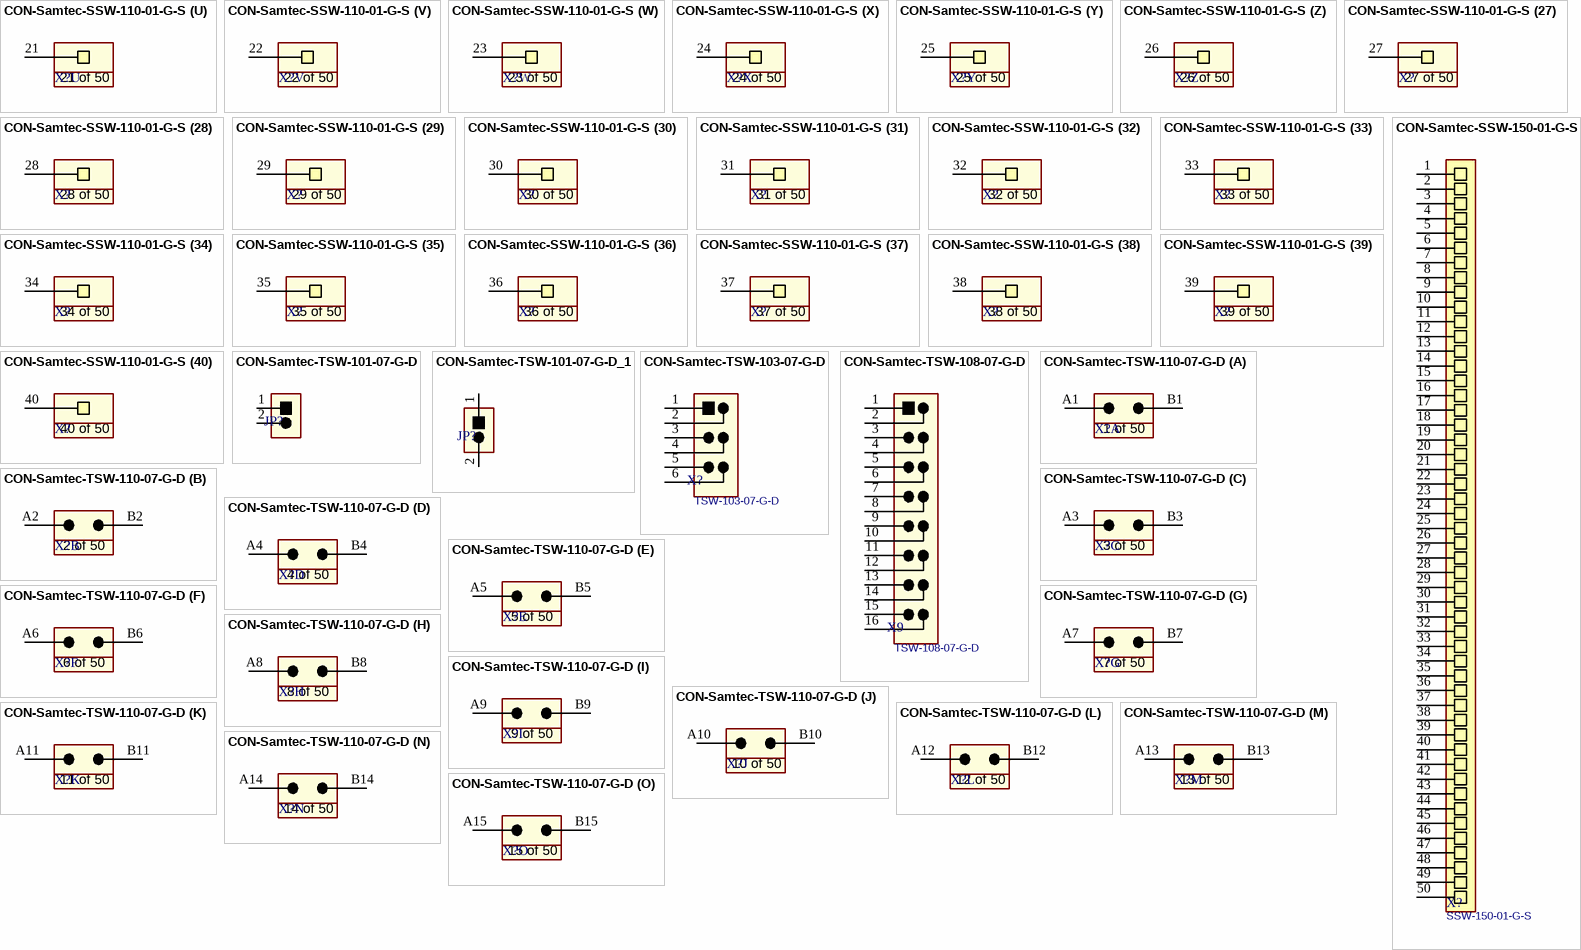
[diagram p3: symbols CON-Samtec-SSW-110-01-G-S to CON-Samtec-TSW-110-07-G-D]

## CON-Samtec-SSW-110-01-G-S
designator X?, comment SSW-110-01-G-S  (value not drawn)
Header 1x50 pin 2.54mm pitch; Manufacturer Name: Samtec; Pitch: 2.54mm; No. of ways: 1x50; Manufacturer Part No.: SSW-110-01-G-S
footprint T_Samtec_SSW-110-01-G-S (Header, 1x50 Pins, 2.54 mm pitch)
part A pins: 1
part B pins: 2
part C pins: 3
part D pins: 4
part E pins: 5
part F pins: 6
part G pins: 7
part H pins: 8
part I pins: 9
part J pins: 10
part K pins: 11
part L pins: 12
part M pins: 13
part N pins: 14
part O pins: 15
part P pins: 16
part Q pins: 17
part R pins: 18
part S pins: 19
part T pins: 20
part U pins: 21
part V pins: 22
part W pins: 23
part X pins: 24
part Y pins: 25
part Z pins: 26
part 27 pins: 27
part 28 pins: 28
part 29 pins: 29
part 30 pins: 30
part 31 pins: 31
part 32 pins: 32
part 33 pins: 33
part 34 pins: 34
part 35 pins: 35
part 36 pins: 36
part 37 pins: 37
part 38 pins: 38
part 39 pins: 39
part 40 pins: 40
part 41 pins: 41
part 42 pins: 42
part 43 pins: 43
part 44 pins: 44
part 45 pins: 45
part 46 pins: 46
part 47 pins: 47
part 48 pins: 48
part 49 pins: 49
part 50 pins: 50
part A text: 1 of 50
part B text: 2 of 50
part C text: 3 of 50
part D text: 4 of 50
part E text: 5 of 50
part F text: 6 of 50
part G text: 7 of 50
part H text: 8 of 50
part I text: 9 of 50
part J text: 10 of 50
part K text: 11 of 50
part L text: 12 of 50
part M text: 13 of 50
part N text: 14 of 50
part O text: 15 of 50
part P text: 16 of 50
part Q text: 17 of 50
part R text: 18 of 50
part S text: 19 of 50
part T text: 20 of 50
part U text: 21 of 50
part V text: 22 of 50
part W text: 23 of 50
part X text: 24 of 50
part Y text: 25 of 50
part Z text: 26 of 50
part 27 text: 27 of 50
part 28 text: 28 of 50
part 29 text: 29 of 50
part 30 text: 30 of 50
part 31 text: 31 of 50
part 32 text: 32 of 50
part 33 text: 33 of 50
part 34 text: 34 of 50
part 35 text: 35 of 50
part 36 text: 36 of 50
part 37 text: 37 of 50
part 38 text: 38 of 50
part 39 text: 39 of 50
part 40 text: 40 of 50
part 41 text: 41 of 50
part 42 text: 42 of 50
part 43 text: 43 of 50
part 44 text: 44 of 50
part 45 text: 45 of 50
part 46 text: 46 of 50
part 47 text: 47 of 50
part 48 text: 48 of 50
part 49 text: 49 of 50
part 50 text: 50 of 50

## CON-Samtec-SSW-150-01-G-S
designator X?, comment SSW-150-01-G-S
Header 1x50 pin 2.54mm pitch; Manufacturer Name: Samtec; Pitch: 2.54mm; No. of ways: 1x50; Manufacturer Part No.: SSW-150-01-G-S
footprint T_Samtec_SSW-150-01-G-S (Header, 1x50 Pins, 2.54 mm pitch)
pins: 1, 2, 3, 4, 5, 6, 7, 8, 9, 10, 11, 12, 13, 14, 15, 16, 17, 18, 19, 20, 21, 22, 23, 24, 25, 26, 27, 28, 29, 30, 31, 32, 33, 34, 35, 36, 37, 38, 39, 40, 41, 42, 43, 44, 45, 46, 47, 48, 49, 50

## CON-Samtec-TSW-101-07-G-D
designator JP?, comment TSW-101-07-G-D  (value not drawn)
Header male, 1x2 Pins, 2.54 mm pitch; Manufacturer Name: Samtec; Pitch: 2.54 mm; No. of ways: 1x2; Manufacturer Part no.: TSW-101-07-G-D
footprint T_Samtec_TSW-101-07-G-D (Header, 1x2 Pins, 2.54 mm pitch, male)
pins: 1, 2

## CON-Samtec-TSW-101-07-G-D_1
designator JP?, comment TSW-101-07-G-D  (value not drawn)
Header male, 1x2 Pins, 2.54 mm pitch; Manufacturer Name: Samtec; Pitch: 2.54 mm; No. of ways: 1x2; Manufacturer Part no.: TSW-101-07-G-D
footprint T_Samtec_TSW-101-07-G-D (Header, 1x2 Pins, 2.54 mm pitch, male)
pins: 1, 2

## CON-Samtec-TSW-103-07-G-D
designator X?, comment TSW-103-07-G-D
Header Male, 2x3 Pins, 2.54mm pitch; Manufacturer Name: Samtec; No. of. ways: 2x3; Pitch: 2.54mm; Manufacturer Part No.: TSW-103-07-G-D
footprint T_Samtec_TSW-103-07-G-D (Header, 2x3 Pins, 2.54 mm pitch, male)
pins: 1, 2, 3, 4, 5, 6

## CON-Samtec-TSW-108-07-G-D
designator X9, comment TSW-108-07-G-D
Header Male, 2x8 Pins, 2.54mm pitch; Manufacturer Name: Samtec; No. of ways: 2x8; Pitch: 2.54mm; Manufacturer Part No.: TSW-108-07-G-D
footprint T_Samtec_TSW-108-07-G-D (Header, 2x8 Pins, 2.54 mm pitch, male)
pins: 1, 2, 3, 4, 5, 6, 7, 8, 9, 10, 11, 12, 13, 14, 15, 16

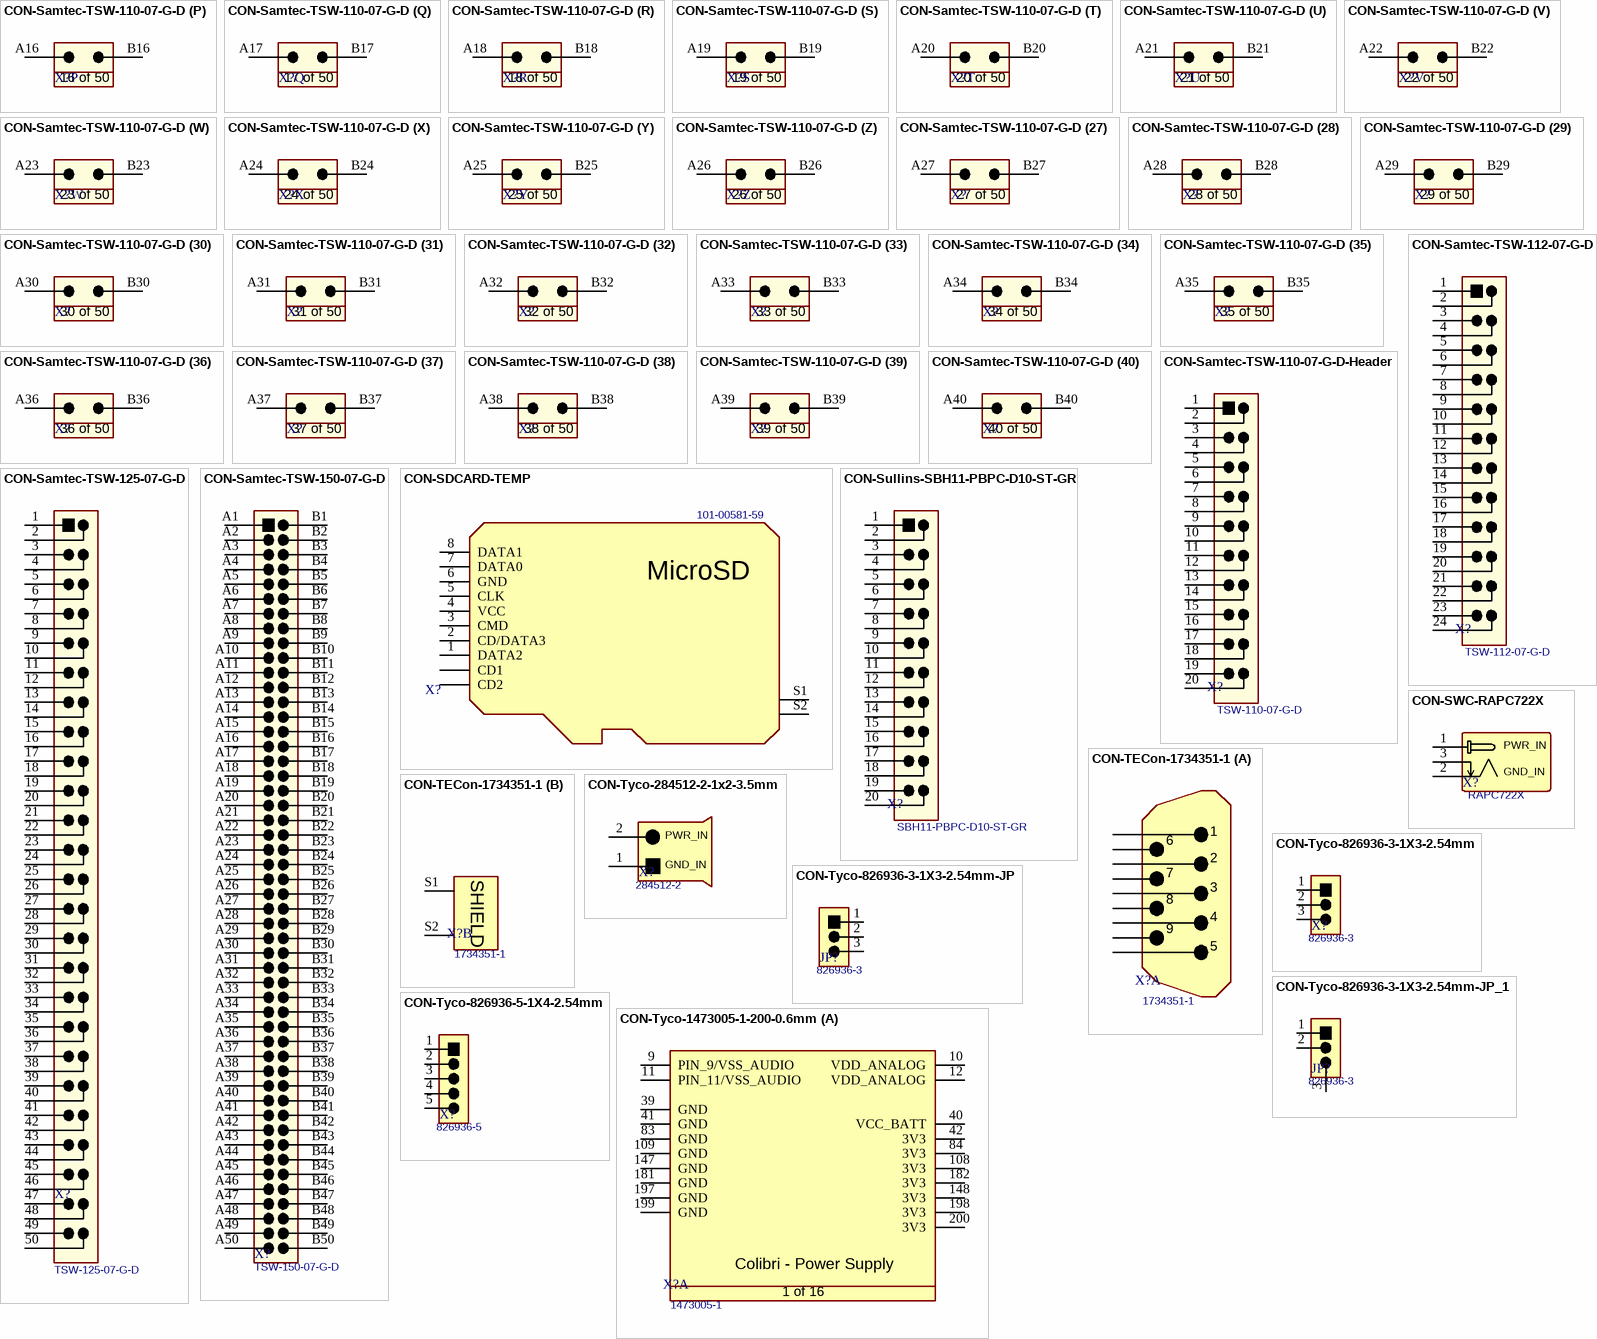
[diagram p4: symbols CON-Samtec-TSW-110-07-G-D to CON-Tyco-1473005-1-200-0.6mm]

## CON-Samtec-TSW-110-07-G-D
designator X?, comment TSW-110-07-G-D  (value not drawn)
Header 2x50 pin 2.54mm pitch; Manufacturer Name: Samtec; Pitch: 2.54mm; No. of ways: 2x50; Manufacturer Part No.: TSW-110-07-G-D
footprint T_Samtec_TSW-110-07-G-D (Header 2x50 pin 2.54mm pitch)
part A pins: A1, B1
part B pins: A2, B2
part C pins: A3, B3
part D pins: A4, B4
part E pins: A5, B5
part F pins: A6, B6
part G pins: A7, B7
part H pins: A8, B8
part I pins: A9, B9
part J pins: A10, B10
part K pins: A11, B11
part L pins: A12, B12
part M pins: A13, B13
part N pins: A14, B14
part O pins: A15, B15
part P pins: A16, B16
part Q pins: A17, B17
part R pins: A18, B18
part S pins: A19, B19
part T pins: A20, B20
part U pins: A21, B21
part V pins: A22, B22
part W pins: A23, B23
part X pins: A24, B24
part Y pins: A25, B25
part Z pins: A26, B26
part 27 pins: A27, B27
part 28 pins: A28, B28
part 29 pins: A29, B29
part 30 pins: A30, B30
part 31 pins: A31, B31
part 32 pins: A32, B32
part 33 pins: A33, B33
part 34 pins: A34, B34
part 35 pins: A35, B35
part 36 pins: A36, B36
part 37 pins: A37, B37
part 38 pins: A38, B38
part 39 pins: A39, B39
part 40 pins: A40, B40
part 41 pins: A41, B41
part 42 pins: A42, B42
part 43 pins: A43, B43
part 44 pins: A44, B44
part 45 pins: A45, B45
part 46 pins: A46, B46
part 47 pins: A47, B47
part 48 pins: A48, B48
part 49 pins: A49, B49
part 50 pins: A50, B50
part A text: 1 of 50
part B text: 2 of 50
part C text: 3 of 50
part D text: 4 of 50
part E text: 5 of 50
part F text: 6 of 50
part G text: 7 of 50
part H text: 8 of 50
part I text: 9 of 50
part J text: 10 of 50
part K text: 11 of 50
part L text: 12 of 50
part M text: 13 of 50
part N text: 14 of 50
part O text: 15 of 50
part P text: 16 of 50
part Q text: 17 of 50
part R text: 18 of 50
part S text: 19 of 50
part T text: 20 of 50
part U text: 21 of 50
part V text: 22 of 50
part W text: 23 of 50
part X text: 24 of 50
part Y text: 25 of 50
part Z text: 26 of 50
part 27 text: 27 of 50
part 28 text: 28 of 50
part 29 text: 29 of 50
part 30 text: 30 of 50
part 31 text: 31 of 50
part 32 text: 32 of 50
part 33 text: 33 of 50
part 34 text: 34 of 50
part 35 text: 35 of 50
part 36 text: 36 of 50
part 37 text: 37 of 50
part 38 text: 38 of 50
part 39 text: 39 of 50
part 40 text: 40 of 50
part 41 text: 41 of 50
part 42 text: 42 of 50
part 43 text: 43 of 50
part 44 text: 44 of 50
part 45 text: 45 of 50
part 46 text: 46 of 50
part 47 text: 47 of 50
part 48 text: 48 of 50
part 49 text: 49 of 50
part 50 text: 50 of 50

## CON-Samtec-TSW-110-07-G-D-Header
designator X?, comment TSW-110-07-G-D
Header male, 2x10 pin 2.54mm pitch; Manufacturer Name: Samtec; No. of ways: 2x10; Pitch: 2.54mm; Manufacturer Part No.: TSW-110-07-G-D
footprint T_Samtec_TSW-110-07-G-D-Header (Header, 2x10 Pins, 2.54 mm pitch)
pins: 1, 2, 3, 4, 5, 6, 7, 8, 9, 10, 11, 12, 13, 14, 15, 16, 17, 18, 19, 20

## CON-Samtec-TSW-112-07-G-D
designator X?, comment TSW-112-07-G-D
Header male, 2x12 Pins, 2.54 mm pitch; Manufacturer Name: Samtec; Pitch: 2.54 mm; No. of ways: 2x12; Manufacturer Part No.: TSW-112-07-G-D
footprint T_Samtec_TSW-112-07-G-D (Header, 2x12 Pins, 2.54 mm pitch, male)
pins: 1, 2, 3, 4, 5, 6, 7, 8, 9, 10, 11, 12, 13, 14, 15, 16, 17, 18, 19, 20, 21, 22, 23, 24

## CON-Samtec-TSW-125-07-G-D
designator X?, comment TSW-125-07-G-D
Header, 2x25 Pins, 2.54 mm pitch; Manufacturer Name: Samtec; Pitch: 2.54mm; No. of ways: 2x25; Manufacturer Part No.: TSW-125-07-G-D
footprint T_SAMTEC_TSW-125-07-G-D (Header, 2x25 Pins, 2.54 mm pitch)
pins: 1, 2, 3, 4, 5, 6, 7, 8, 9, 10, 11, 12, 13, 14, 15, 16, 17, 18, 19, 20, 21, 22, 23, 24, 25, 26, 27, 28, 29, 30, 31, 32, 33, 34, 35, 36, 37, 38, 39, 40, 41, 42, 43, 44, 45, 46, 47, 48, 49, 50

## CON-Samtec-TSW-150-07-G-D
designator X?, comment TSW-150-07-G-D
Header 2x50 pin 2.54mm pitch; Manufacturer Name: Samtec; No. of ways: 2x10; Pitch: 2.54mm; Manufacturer Part No.: TSW-150-07-G-D
footprint T_Samtec_TSW-150-07-G-D (Header 2x50 pin 2.54mm pitch)
pins: A1, A2, A3, A4, A5, A6, A7, A8, A9, A10, A11, A12, A13, A14, A15, A16, A17, A18, A19, A20, A21, A22, A23, A24, A25, A26, A27, A28, A29, A30, A31, A32, A33, A34, A35, A36, A37, A38, A39, A40, A41, A42, A43, A44, A45, A46, A47, A48, A49, A50, B1, B2, B3, B4, B5, B6, B7, B8, B9, B10, B11, B12, B13, B14, B15, B16, B17, B18, B19, B20, B21, B22, B23, B24, B25, B26, B27, B28, B29, B30, B31, B32, B33, B34, B35, B36, B37, B38, B39, B40, B41, B42, B43, B44, B45, B46, B47, B48, B49, B50

## CON-SDCARD-TEMP
designator X?, comment Manufacturer Part No.: 101-00581-59  (hidden comment: MicroSD Holder)
Micro SD Holder Push Push CD; Manufacturer Name: Ampenol; No. of ways: 9
footprint T_SD_CARD_TEMP
pins: 1 DATA2 (power), 2 CD/DATA3, 3 CMD, 4 VCC, 5 CLK (power), 6 GND (power), 7 DATA0 (power), 8 DATA1 (power), CD1 (power), CD2 (power), S1 S, S2 S
text: MicroSD

## CON-Sullins-SBH11-PBPC-D10-ST-GR
designator X?, comment SBH11-PBPC-D10-ST-GR
Header shrouded male, 2x10 pin 2.54mm pitch; Manufacturer Name: Sullins; No. of ways: 2x10; Pitch: 2.54mm; Manufacturer Part No.: SBH11-PBPC-D10-ST-GR
footprint T_Sullins_SBH11-PBPC-D10-ST-GR (Header shrouded, 2x10 Pins, 2.54 mm pitch)
pins: 1, 2, 3, 4, 5, 6, 7, 8, 9, 10, 11, 12, 13, 14, 15, 16, 17, 18, 19, 20

## CON-SWC-RAPC722X
designator X?, comment RAPC722X
Power Jack; Manufacturer Name: SWC; Manufacturer Part No.: RAPC722X
footprint T_DCJ20-0014TB-L (Header, 1x2 Pins, 2.54 mm pitch, male)
pins: 1 GND_IN, 2 PWR_IN, 3 PWR_IN

## CON-TECon-1734351-1
designator X?, comment 1734351-1
9 pin male D-SUB connector; Manufacturer Name: TE Connectivity; No. of ways: 9; Manufacturer Part No.: 1734351-1
footprint T_TECon_1734351-1 (9 pin male D-SUB connector)
part A pins: 1 DCD, 2 RXD, 3 TXD, 4 DTR, 5 GND, 6 DSR, 7 RTS, 8 CTS, 9 RI
part B pins: S1 SHIELD, S2 SHIELD

## CON-Tyco-284512-2-1x2-3.5mm
designator X?, comment 284512-2
Power Connector; Manufacturer Name: Tyco; No. of ways: 1x2; Pitch: 3.5mm; Manufacturer Part No.: 284512-2
footprint T_TYCO_284512-2 (Power Connector 3.5mm)
pins: 1 GND_IN, 2 PWR_IN

## CON-Tyco-826936-3-1X3-2.54mm
designator X?, comment 826936-3
Header, 3-Pin; Manufacturer Name: Tyco; No. of ways: 1X3; Pitch: 2.54mm; Manufacturer Part No.: 826936-3
footprint T_TYCO_826936-3 (Connector; Header; 3 Position)
pins: 1, 2, 3

## CON-Tyco-826936-3-1X3-2.54mm-JP
designator JP?, comment 826936-3
Jumper, 3-Pin; Manufacturer Name: Tyco; No. of ways: 1X3; Pitch: 2.54mm; Manufacturer Part No.: 826936-3
footprint T_TYCO_826936-3 (Connector; Header; 3 Position)
pins: 1, 2, 3

## CON-Tyco-826936-3-1X3-2.54mm-JP_1
designator JP?, comment 826936-3
Jumper, 3-Pin; Manufacturer Name: Tyco; No. of ways: 1X3; Pitch: 2.54mm; Manufacturer Part No.: 826936-3
footprint T_TYCO_826936-3 (Connector; Header; 3 Position)
pins: 1, 2, 3

## CON-Tyco-826936-5-1X4-2.54mm
designator X?, comment 826936-5
Header, 5-Pin; Manufacturer Name: Tyco; No. of ways: 1X5; Pitch: 2.54mm; Manufacturer Part No.: 826936-5
footprint T_TYCO_826936-5 (Connector, Header, 4 Position, 2.54mm pitch)
pins: 1, 2, 3, 4, 5

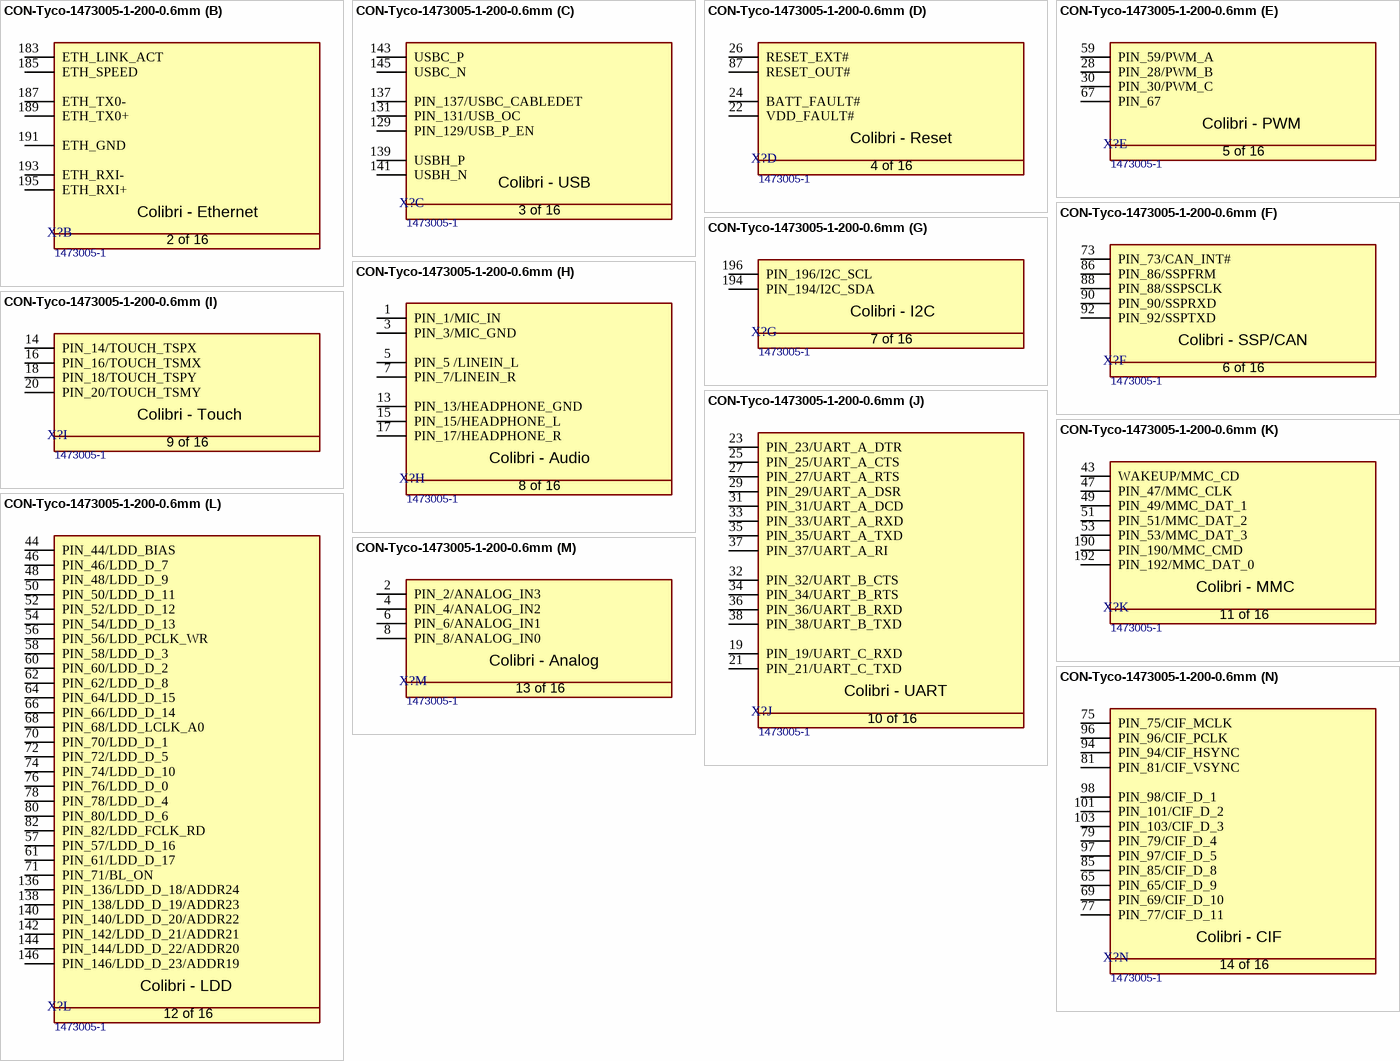
[diagram p5: symbol CON-Tyco-1473005-1-200-0.6mm]

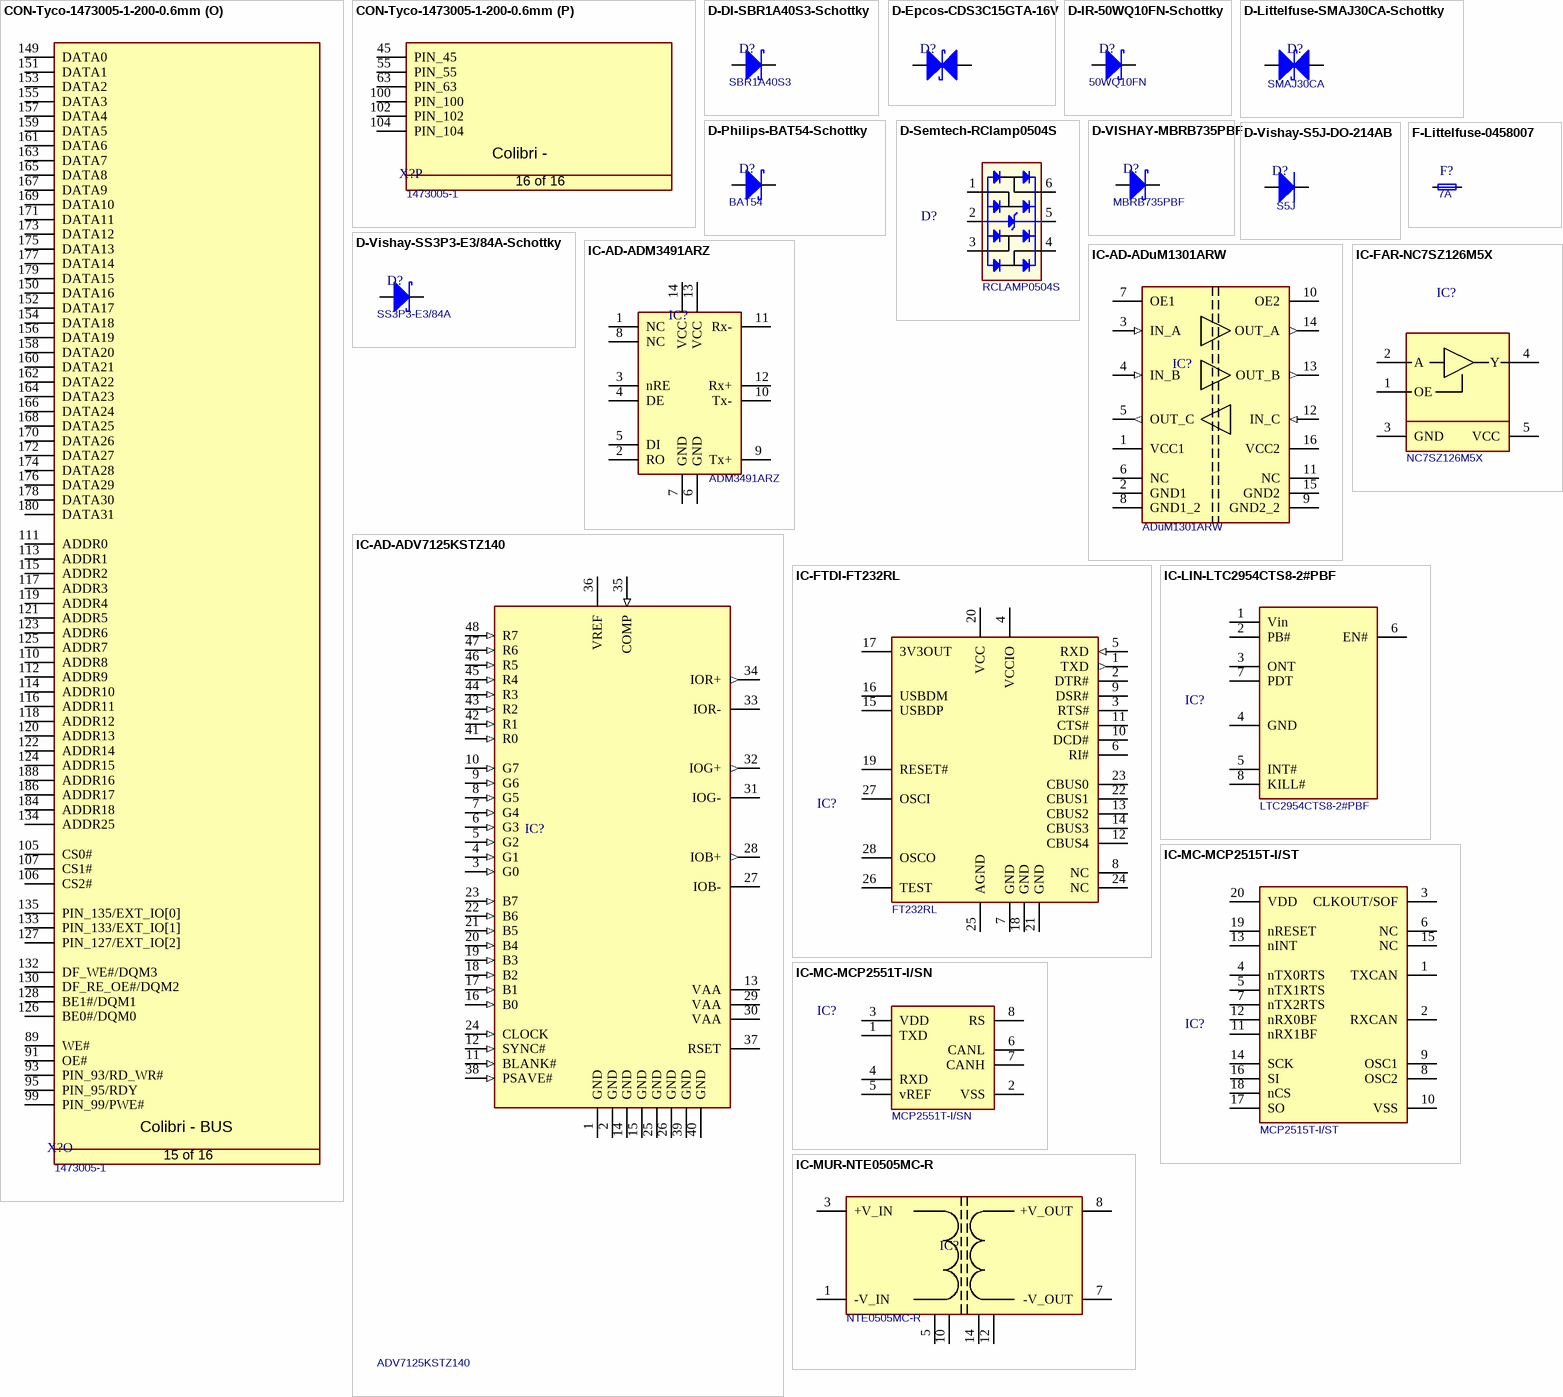
[diagram p6: symbols CON-Tyco-1473005-1-200-0.6mm to IC-MUR-NTE0505MC-R]

## CON-Tyco-1473005-1-200-0.6mm
designator X?  Manufacturer Part No.: 1473005-1  (hidden comment: CON-Tyco-1473005-1-200-0.6mm)
SODIMM Connector; Manufacturer Name: Tyco; No. of ways: 200
footprint T_Tyco_1473005-1 (SODIMM Connector)
part A pins: 9 PIN_9/VSS_AUDIO, 10 VDD_ANALOG, 11 PIN_11/VSS_AUDIO, 12 VDD_ANALOG, 39 GND (power), 40 VCC_BATT (power), 41 GND (power), 42 3V3 (power), 83 GND (power), 84 3V3 (power), 108 3V3, 109 GND (power), 147 GND (power), 148 3V3, 181 GND (power), 182 3V3 (power), 197 GND (power), 198 3V3 (power), 199 GND (power), 200 3V3 (power)
part B pins: 183 ETH_LINK_ACT, 185 ETH_SPEED, 187 ETH_TX0-, 189 ETH_TX0+, 191 ETH_GND, 193 ETH_RXI-, 195 ETH_RXI+
part C pins: 129 PIN_129/USB_P_EN, 131 PIN_131/USB_OC, 137 PIN_137/USBC_CABLEDET, 139 USBH_P, 141 USBH_N, 143 USBC_P, 145 USBC_N
part D pins: 22 VDD_FAULT#, 24 BATT_FAULT#, 26 RESET_EXT#, 87 RESET_OUT#
part E pins: 28 PIN_28/PWM_B, 30 PIN_30/PWM_C, 59 PIN_59/PWM_A, 67 PIN_67
part F pins: 73 PIN_73/CAN_INT#, 86 PIN_86/SSPFRM, 88 PIN_88/SSPSCLK, 90 PIN_90/SSPRXD, 92 PIN_92/SSPTXD
part G pins: 194 PIN_194/I2C_SDA, 196 PIN_196/I2C_SCL
part H pins: 1 PIN_1/MIC_IN, 3 PIN_3/MIC_GND, 5 PIN_5 /LINEIN_L, 7 PIN_7/LINEIN_R, 13 PIN_13/HEADPHONE_GND, 15 PIN_15/HEADPHONE_L, 17 PIN_17/HEADPHONE_R
part I pins: 14 PIN_14/TOUCH_TSPX, 16 PIN_16/TOUCH_TSMX, 18 PIN_18/TOUCH_TSPY, 20 PIN_20/TOUCH_TSMY
part J pins: 19 PIN_19/UART_C_RXD, 21 PIN_21/UART_C_TXD, 23 PIN_23/UART_A_DTR, 25 PIN_25/UART_A_CTS, 27 PIN_27/UART_A_RTS, 29 PIN_29/UART_A_DSR, 31 PIN_31/UART_A_DCD, 32 PIN_32/UART_B_CTS, 33 PIN_33/UART_A_RXD, 34 PIN_34/UART_B_RTS, 35 PIN_35/UART_A_TXD, 36 PIN_36/UART_B_RXD, 37 PIN_37/UART_A_RI, 38 PIN_38/UART_B_TXD
part K pins: 43 WAKEUP/MMC_CD, 47 PIN_47/MMC_CLK, 49 PIN_49/MMC_DAT_1, 51 PIN_51/MMC_DAT_2, 53 PIN_53/MMC_DAT_3, 190 PIN_190/MMC_CMD, 192 PIN_192/MMC_DAT_0
part L pins: 44 PIN_44/LDD_BIAS, 46 PIN_46/LDD_D_7, 48 PIN_48/LDD_D_9, 50 PIN_50/LDD_D_11, 52 PIN_52/LDD_D_12, 54 PIN_54/LDD_D_13, 56 PIN_56/LDD_PCLK_WR, 57 PIN_57/LDD_D_16, 58 PIN_58/LDD_D_3, 60 PIN_60/LDD_D_2, 61 PIN_61/LDD_D_17, 62 PIN_62/LDD_D_8, 64 PIN_64/LDD_D_15, 66 PIN_66/LDD_D_14, 68 PIN_68/LDD_LCLK_A0, 70 PIN_70/LDD_D_1, 71 PIN_71/BL_ON, 72 PIN_72/LDD_D_5, 74 PIN_74/LDD_D_10, 76 PIN_76/LDD_D_0, 78 PIN_78/LDD_D_4, 80 PIN_80/LDD_D_6, 82 PIN_82/LDD_FCLK_RD, 136 PIN_136/LDD_D_18/ADDR24, 138 PIN_138/LDD_D_19/ADDR23, 140 PIN_140/LDD_D_20/ADDR22, 142 PIN_142/LDD_D_21/ADDR21, 144 PIN_144/LDD_D_22/ADDR20, 146 PIN_146/LDD_D_23/ADDR19
part M pins: 2 PIN_2/ANALOG_IN3, 4 PIN_4/ANALOG_IN2, 6 PIN_6/ANALOG_IN1, 8 PIN_8/ANALOG_IN0
part N pins: 65 PIN_65/CIF_D_9, 69 PIN_69/CIF_D_10, 75 PIN_75/CIF_MCLK, 77 PIN_77/CIF_D_11, 79 PIN_79/CIF_D_4, 81 PIN_81/CIF_VSYNC, 85 PIN_85/CIF_D_8, 94 PIN_94/CIF_HSYNC, 96 PIN_96/CIF_PCLK, 97 PIN_97/CIF_D_5, 98 PIN_98/CIF_D_1, 101 PIN_101/CIF_D_2, 103 PIN_103/CIF_D_3
part O pins: 89 WE#, 91 OE#, 93 PIN_93/RD_WR#, 95 PIN_95/RDY, 99 PIN_99/PWE#, 105 CS0#, 106 CS2#, 107 CS1#, 110 ADDR8, 111 ADDR0, 112 ADDR9, 113 ADDR1, 114 ADDR10, 115 ADDR2, 116 ADDR11, 117 ADDR3, 118 ADDR12, 119 ADDR4, 120 ADDR13, 121 ADDR5, 122 ADDR14, 123 ADDR6, 124 ADDR15, 125 ADDR7, 126 BE0#/DQM0, 127 PIN_127/EXT_IO[2], 128 BE1#/DQM1, 130 DF_RE_OE#/DQM2, 132 DF_WE#/DQM3, 133 PIN_133/EXT_IO[1], 134 ADDR25, 135 PIN_135/EXT_IO[0], 149 DATA0, 150 DATA16, 151 DATA1, 152 DATA17, 153 DATA2, 154 DATA18, 155 DATA3, 156 DATA19, 157 DATA4, 158 DATA20, 159 DATA5, 160 DATA21, 161 DATA6, 162 DATA22, 163 DATA7, 164 DATA23, 165 DATA8, 166 DATA24, 167 DATA9, 168 DATA25, 169 DATA10, 170 DATA26, 171 DATA11, 172 DATA27, 173 DATA12, 174 DATA28, 175 DATA13, 176 DATA29, 177 DATA14, 178 DATA30, 179 DATA15, 180 DATA31, 184 ADDR18, 186 ADDR17, 188 ADDR16
part P pins: 45 PIN_45, 55 PIN_55, 63 PIN_63, 100 PIN_100, 102 PIN_102, 104 PIN_104
part A text: Colibri - Power Supply; 1 of 16
part B text: Colibri - Ethernet; 2 of 16
part C text: Colibri - USB; 3 of 16
part D text: Colibri - Reset; 4 of 16
part E text: Colibri - PWM; 5 of 16
part F text: Colibri - SSP/CAN; 6 of 16
part G text: Colibri - I2C; 7 of 16
part H text: Colibri - Audio; 8 of 16
part I text: Colibri - Touch; 9 of 16
part J text: Colibri - UART; 10 of 16
part K text: Colibri - MMC; 11 of 16
part L text: Colibri - LDD; 12 of 16
part M text: Colibri - Analog; 13 of 16
part N text: Colibri - CIF; 14 of 16
part O text: Colibri - BUS; 15 of 16
part P text: Colibri -; 16 of 16

## D-DI-SBR1A40S3-Schottky
designator D?  Manufacturer Part No.: SBR1A40S3
SUPER BARRIER RECTIFIER Schottky Diode; Manufacturer Name: Diodes Incorporated
footprint TO228P1003X238-3N
pins: 1, 3

## D-Epcos-CDS3C15GTA-16V
designator D?
Bidirectional ESD protection; Manufacturer Name: Epcos; Manufacturer Part No.: CDS3C15GTA
footprint T_Epcos_CDS3C15GTA (Bidirectional ESD Protection)
pins: P1 GND, P2 I/O line

## D-IR-50WQ10FN-Schottky
designator D?  Manufacturer Part No.: 50WQ10FN
Schottky Diode; Manufacturer Name: International Rectifier
footprint TO228P1003X238-3N
pins: 1, 3

## D-Littelfuse-SMAJ30CA-Schottky
designator D?  Manufacturer Part No.: SMAJ30CA
Bidirectional ESD protection; Manufacturer Name: Littelfuse
footprint T_LITTLEFUSE_SMAJ30CA (Bidirectional ESD protection)
pins: 1 Cathode, 2 Anode

## D-Philips-BAT54-Schottky
designator D?, comment BAT54
BAT54 Schottky Diode; Manufacturer Name: Philips; Manufacturer Part No.: BAT54
footprint SOT95P230X110-3N
pins: 1, 3

## D-Semtech-RClamp0504S
designator D?, comment RCLAMP0504S
TVS Array low cap; Manufacturer Name: Semtech; Manufacturer Part No.: RCLAMP0504S
footprint T_SOT95P285X90-6N (Footprint not found)
pins: 1 (power), 2 (power), 3 (power), 4 (power), 5 (power), 6 (power)

## D-VISHAY-MBRB735PBF
designator D?, comment MBRB735PBF
MBRB735PBF Schottky Diode; Manufacturer Name: Vishay; Manufacturer Part No.: MBRB735PBF
footprint T_VISHAY_MBRB735PBF
pins: 2, 3

## D-Vishay-S5J-DO-214AB
designator D?, comment S5J
Vishay S5J Rectifier; Manufacturer Name: Vishay; Manufacturer Part No.: S5J
footprint T_VISHAY_S5J (5A Rectifier)
pins: 1, 2

## D-Vishay-SS3P3-E3/84A-Schottky
designator D?, comment Manufacturer Part No.: SS3P3-E3/84A  (hidden comment: SS3P3)
SS3P3-E3/84A Schottky Diode; Manufacturer Name: Vishay
footprint T_VISHAY_SS3P3 (Schottky Barrier Rectifiers. 2-Leads, Body 3.7x1.88mm)
pins: 1, 2

## F-Littelfuse-0458007
designator F?, comment 7A
Fuse 7A Fast; Manufacturer Part No.: 0458007; Manufacturer Name: Littelfuse; Value: 7A
footprint T_Littelfuse_0458 (Fast Fuse)
pins: 1, 2

## IC-AD-ADM3491ARZ
designator IC?, comment ADM3491ARZ
ADM3491ARZ RS-485/RS-422 transceiver; Manufacturer Name: Analog Devices; Manufacturer Part No.: ADM3491ARZ
footprint SOIC127P600X175-14N (SOIC 14 pin)
pins: 1 NC, 2 RO, 3 nRE, 4 DE, 5 DI, 6 GND, 7 GND, 8 NC, 9 Tx+, 10 Tx-, 11 Rx-, 12 Rx+, 13 VCC, 14 VCC

## IC-AD-ADuM1301ARW
designator IC?, comment ADuM1301ARW
Digital Isolator; Manufacturer Name: Analog Devices; Manufacturer Part No.: ADuM1301ARW
footprint T_AD_ADuM1300ARW (SOIC _W 16 pin)
pins: 1 VCC1, 2 GND1 (power), 3 IN_A (in), 4 IN_B (in), 5 OUT_C (out), 6 NC, 7 OE1, 8 GND1_2 (power), 9 GND2_2 (power), 10 OE2, 11 NC, 12 IN_C (in), 13 OUT_B (out), 14 OUT_A (out), 15 GND2 (power), 16 VCC2

## IC-AD-ADV7125KSTZ140
designator IC?, comment ADV7125KSTZ140
Video DAC 8bit 140MHz; Manufacturer Name: Analog Devices; Manufacturer Part No.: ADV7125KSTZ140
footprint QFP50P900X900X120-48N
pins: 1 GND (power), 2 GND (power), 3 G0 (in), 4 G1 (in), 5 G2 (in), 6 G3 (in), 7 G4 (in), 8 G5 (in), 9 G6 (in), 10 G7 (in), 11 BLANK# (in), 12 SYNC# (in), 13 VAA (power), 14 GND (power), 15 GND (power), 16 B0 (in), 17 B1 (in), 18 B2 (in), 19 B3 (in), 20 B4 (in), 21 B5 (in), 22 B6 (in), 23 B7 (in), 24 CLOCK (in), 25 GND (power), 26 GND (power), 27 IOB- (power), 28 IOB+ (out), 29 VAA (power), 30 VAA (power), 31 IOG- (power), 32 IOG+ (out), 33 IOR- (power), 34 IOR+ (out), 35 COMP (in), 36 VREF (power), 37 RSET, 38 PSAVE# (in), 39 GND (power), 40 GND (power), 41 R0 (in), 42 R1 (in), 43 R2 (in), 44 R3 (in), 45 R4 (in), 46 R5 (in), 47 R6 (in), 48 R7 (in)

## IC-FAR-NC7SZ126M5X
designator IC?, comment NC7SZ126M5X
NC7SZ126M5X  Buffer Three-State Output; Manufacturer Name: Fairchild Semiconductor; Manufacturer Part No.: NC7SZ126M5X
footprint SOT95P279X142-5N
pins: 1 OE, 2 A, 3 GND, 4 Y, 5 VCC

## IC-FTDI-FT232RL
designator IC?, comment FT232RL
FT232R USB TO UART; Manufacturer Name: FTDI; Manufacturer Part No.: FT232RL
footprint T_FTDI_FT232RL (28-Pin SSOP 0.65 mm Pitch)
pins: 1 TXD (out), 2 DTR#, 3 RTS#, 4 VCCIO, 5 RXD (in), 6 RI#, 7 GND, 8 NC, 9 DSR#, 10 DCD#, 11 CTS#, 12 CBUS4, 13 CBUS2, 14 CBUS3, 15 USBDP, 16 USBDM, 17 3V3OUT, 18 GND, 19 RESET#, 20 VCC, 21 GND, 22 CBUS1, 23 CBUS0, 24 NC, 25 AGND, 26 TEST, 27 OSCI, 28 OSCO

## IC-LIN-LTC2954CTS8-2#PBF
designator IC?, comment LTC2954CTS8-2#PBF
Push Button On/Off Controller; Manufacturer Name: Linear; Manufacturer Part No.: LTC2954CTS8-2#PBF
footprint T_LINEAR_LTC2954CTS8-2#PBF
pins: 1 Vin, 2 PB#, 3 ONT, 4 GND, 5 INT#, 6 EN#, 7 PDT, 8 KILL#

## IC-MC-MCP2515T-I/ST
designator IC?, comment Manufacturer Part No.: MCP2515T-I/ST  (hidden comment: MCP2515)
CAN controller with SPI Interface; Manufacturer Name: Microchip
footprint T_MC_MCP2515T-I/ST (TSSOP20)
pins: 1 TXCAN, 2 RXCAN, 3 CLKOUT/SOF, 4 nTX0RTS, 5 nTX1RTS, 6 NC, 7 nTX2RTS, 8 OSC2, 9 OSC1, 10 VSS (power), 11 nRX1BF, 12 nRX0BF, 13 nINT, 14 SCK, 15 NC, 16 SI, 17 SO, 18 nCS, 19 nRESET, 20 VDD

## IC-MC-MCP2551T-I/SN
designator IC?, comment MCP2551T-I/SN
High speed CAN Transceiver; Manufacturer Name: Microchip; Manufacturer Part No.: MCP2551T-I/SN
footprint SOIC127P600X173-8N
pins: 1 TXD, 2 VSS, 3 VDD, 4 RXD, 5 vREF, 6 CANL, 7 CANH, 8 RS

## IC-MUR-NTE0505MC-R
designator IC?, comment NTE0505MC-R
Isolated DC/DC Converter; Manufacturer Name: Murata; Manufacturer Part No.: NTE0505MC-R
footprint T_MURATA_NTE0505MC-R (Isolated DC/DC converter)
pins: 1 -V_IN (power), 3 +V_IN (power), 5 NC, 7 -V_OUT (power), 8 +V_OUT (power), 10 NC, 12 NC, 14 NC

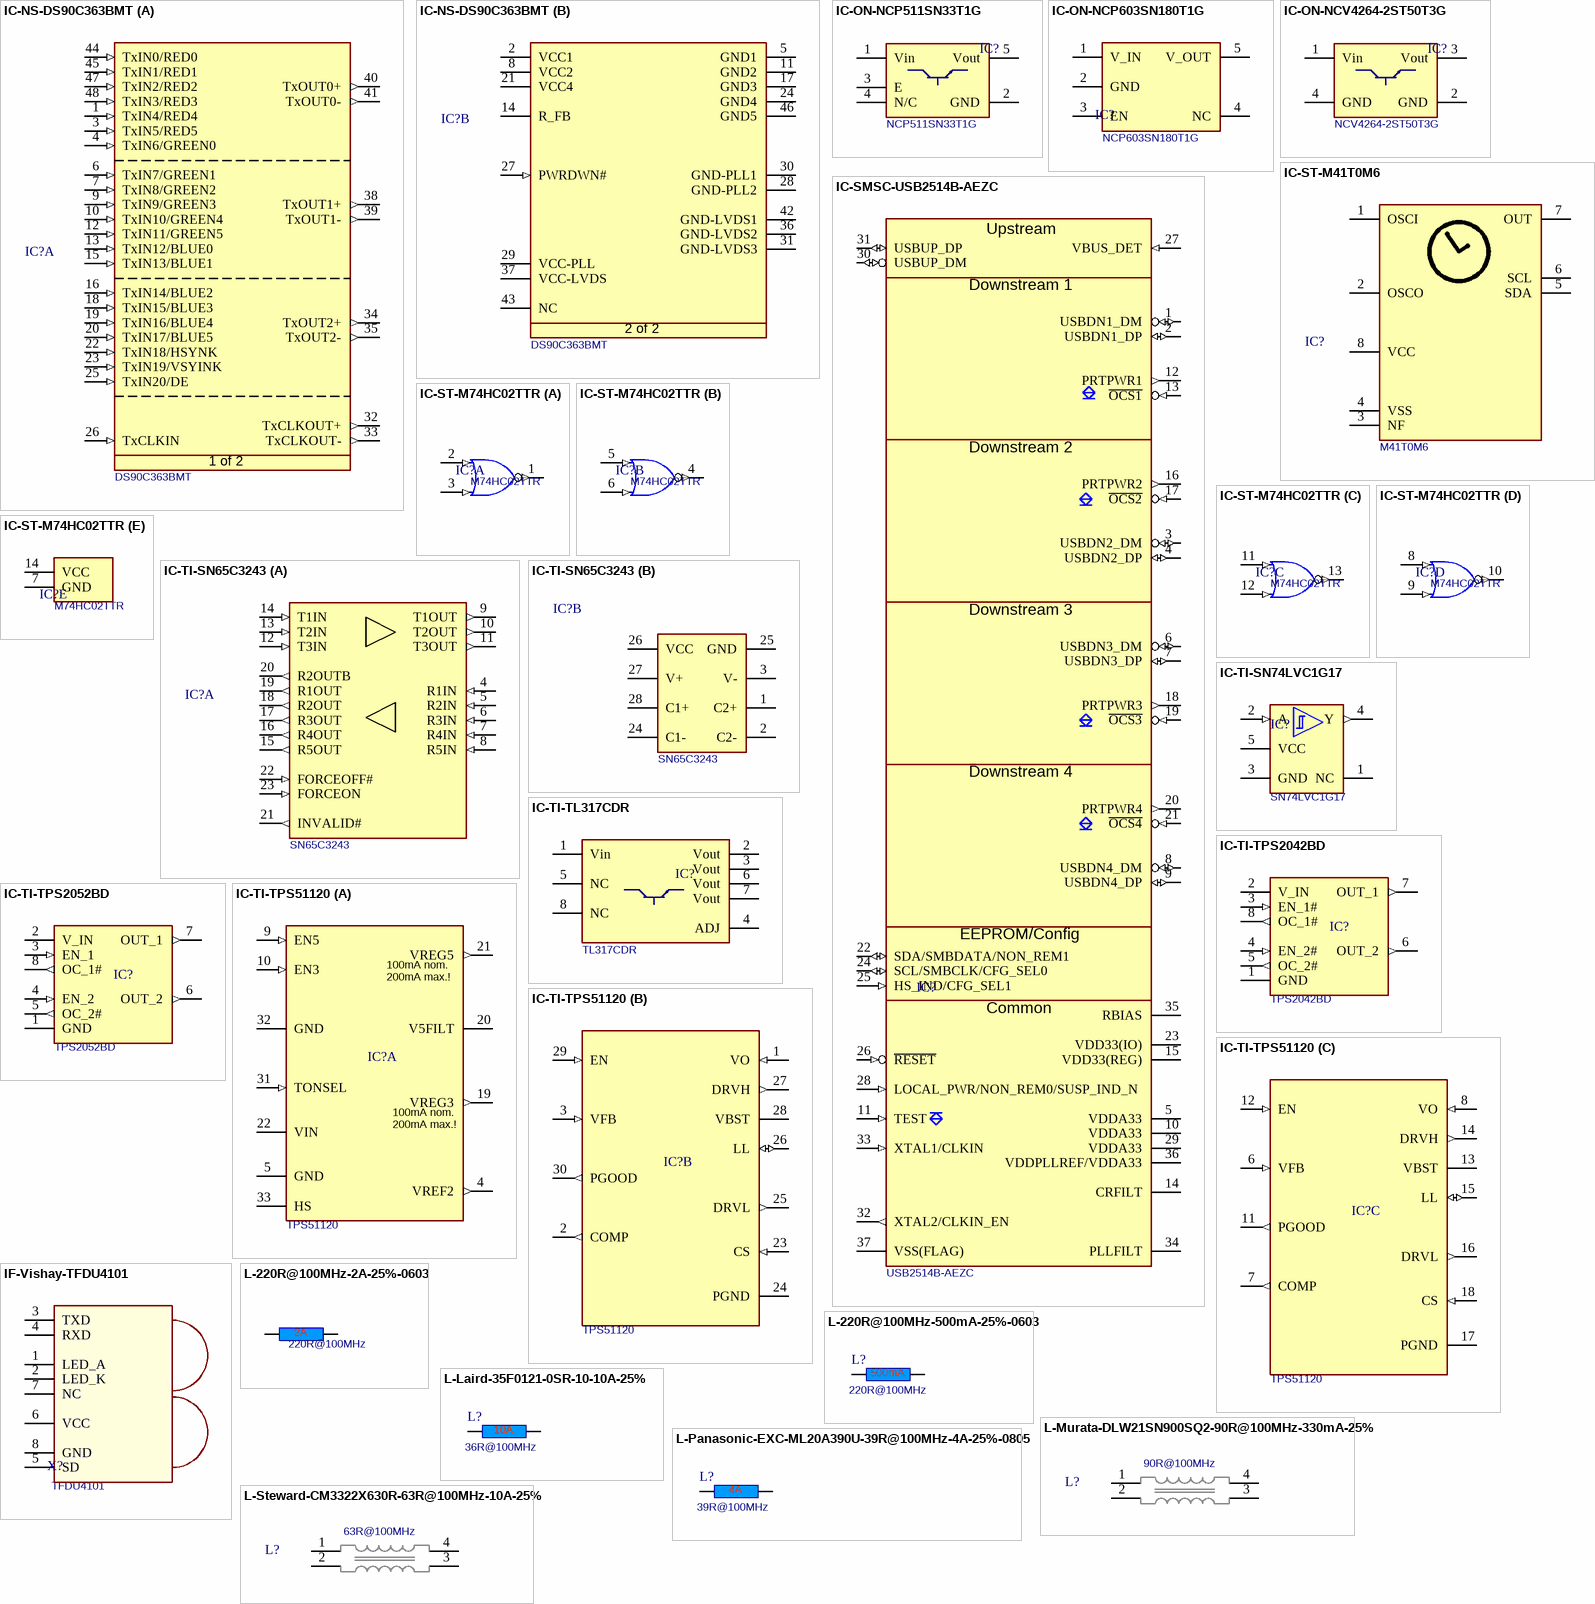
[diagram p7: symbols IC-NS-DS90C363BMT to L-Steward-CM3322X630R-63R@100MHz-10A-25%]

## IC-NS-DS90C363BMT
designator IC?, comment DS90C363BMT
LVDS Converter; Manufacturer Name: National Semiconductor; Manufacturer Part No.: DS90C363BMT
footprint SOP50P810X120-48N
part A pins: 1 TxIN4/RED4 (in), 3 TxIN5/RED5 (in), 4 TxIN6/GREEN0 (in), 6 TxIN7/GREEN1 (in), 7 TxIN8/GREEN2 (in), 9 TxIN9/GREEN3 (in), 10 TxIN10/GREEN4 (in), 12 TxIN11/GREEN5 (in), 13 TxIN12/BLUE0 (in), 15 TxIN13/BLUE1 (in), 16 TxIN14/BLUE2 (in), 18 TxIN15/BLUE3 (in), 19 TxIN16/BLUE4 (in), 20 TxIN17/BLUE5 (in), 22 TxIN18/HSYNK (in), 23 TxIN19/VSYINK (in), 25 TxIN20/DE (in), 26 TxCLKIN (in), 32 TxCLKOUT+ (out), 33 TxCLKOUT- (out), 34 TxOUT2+ (out), 35 TxOUT2- (out), 38 TxOUT1+ (out), 39 TxOUT1- (out), 40 TxOUT0+ (out), 41 TxOUT0- (out), 44 TxIN0/RED0 (in), 45 TxIN1/RED1 (in), 47 TxIN2/RED2 (in), 48 TxIN3/RED3 (in)
part B pins: 2 VCC1 (power), 5 GND1 (power), 8 VCC2 (power), 11 GND2 (power), 14 R_FB (power), 17 GND3 (power), 21 VCC4 (power), 24 GND4 (power), 27 PWRDWN# (in), 28 GND-PLL2 (power), 29 VCC-PLL (power), 30 GND-PLL1 (power), 31 GND-LVDS3 (power), 36 GND-LVDS2 (power), 37 VCC-LVDS (power), 42 GND-LVDS1 (power), 43 NC, 46 GND5 (power)
part A text: 1 of 2
part B text: 2 of 2

## IC-ON-NCP511SN33T1G
designator IC?, comment NCP511SN33T1G
NCP511SN33T1G LDO Regulator; Manufacturer Name: ON Semiconductor; Manufacturer Part No.: NCP511SN33T1G
footprint SOT95P279X142-5N
pins: 1 Vin, 2 GND, 3 E, 4 N/C, 5 Vout

## IC-ON-NCP603SN180T1G
designator IC?, comment NCP603SN180T1G
CMOS LDO Regulator; Manufacturer Name: ON; Manufacturer Part No.: NCP603SN180T1G
footprint T_ON_NCP603SN180T1G (SOT 23)
pins: 1 V_IN (power), 2 GND (power), 3 EN, 4 NC, 5 V_OUT

## IC-ON-NCV4264-2ST50T3G
designator IC?, comment NCV4264-2ST50T3G
NCV4264-2ST50T3G LDO Regulator; Manufacturer Name: ON Semiconductor; Manufacturer Part No.: NCV4264-2ST50T3G
footprint T_ON_NCV4264-2ST50T3G (SO4)
pins: 1 Vin, 2 GND, 3 Vout, 4 GND

## IC-SMSC-USB2514B-AEZC
designator IC?, comment Manufacturer Part No.: USB2514B-AEZC  (hidden comment: USB2514B)
4 Port USB HUB; Manufacturer Name: SMSC
footprint T_SMSC_USB2514B-AEZC (QFN, 36-Leads, Body 6x6mm, Pitch 0.5mm, IPC High Density)
pins: 1 USBDN1_DM (io), 2 USBDN1_DP (io), 3 USBDN2_DM (io), 4 USBDN2_DP (io), 5 VDDA33 (power), 6 USBDN3_DM (io), 7 USBDN3_DP (io), 8 USBDN4_DM (io), 9 USBDN4_DP (io), 10 VDDA33 (power), 11 TEST (in), 12 PRTPWR1 (out), 13 ~{OCS1} (in), 14 CRFILT (power), 15 VDD33(REG) (power), 16 PRTPWR2 (out), 17 ~{OCS2} (in), 18 PRTPWR3 (out), 19 ~{OCS3} (in), 20 PRTPWR4 (out), 21 ~{OCS4} (in), 22 SDA/SMBDATA/NON_REM1 (io), 23 VDD33(IO) (power), 24 SCL/SMBCLK/CFG_SEL0 (io), 25 HS_IND/CFG_SEL1 (in), 26 ~{RESET} (in), 27 VBUS_DET (in), 28 LOCAL_PWR/NON_REM0/SUSP_IND_N (in), 29 VDDA33 (power), 30 USBUP_DM (io), 31 USBUP_DP (io), 32 XTAL2/CLKIN_EN (out), 33 XTAL1/CLKIN (in), 34 PLLFILT (power), 35 RBIAS, 36 VDDPLLREF/VDDA33 (power), 37 VSS(FLAG) (power)
text: Upstream; Downstream 1; Downstream 2; Downstream 3; Downstream 4; EEPROM/Config; Common

## IC-ST-M41T0M6
designator IC?, comment M41T0M6
RTC M41T0M6; Manufacturer Name: ST; Manufacturer Part No.: M41T0M6
footprint SOIC127P600X173-8N
pins: 1 OSCI, 2 OSCO, 3 NF, 4 VSS, 5 SDA, 6 SCL, 7 OUT, 8 VCC

## IC-ST-M74HC02TTR
designator IC?, comment M74HC02TTR
Quad 2-Input NOR Gate; Manufacturer Name: ST Microelectronics; Manufacturer part No.: M74HC02TTR
footprint T_ST_M74HC02TTR (Shrink Small Outline; 14 Leads; Body Width 4.4 mm; Pitch 0.65 mm)
part A pins: 1 ~{O} (out), 2 A (in), 3 B (in)
part B pins: 4 ~{O} (out), 5 A (in), 6 B (in)
part C pins: 11 A (in), 12 B (in), 13 ~{O} (out)
part D pins: 8 A (in), 9 B (in), 10 ~{O} (out)
part E pins: 7 GND (power), 14 VCC (power)

## IC-TI-SN65C3243
designator IC?, comment SN65C3243
RS-232 Serial Transceiver; Manufacturer Name: Texas Instruments; Manufacturer Part No.: SN65C3243
footprint SOP65P780X200-28N
part A pins: 4 R1IN (in), 5 R2IN (in), 6 R3IN (in), 7 R4IN (in), 8 R5IN (in), 9 T1OUT (out), 10 T2OUT (out), 11 T3OUT (out), 12 T3IN (in), 13 T2IN (in), 14 T1IN (in), 15 R5OUT (out), 16 R4OUT (out), 17 R3OUT (out), 18 R2OUT (out), 19 R1OUT (out), 20 R2OUTB (out), 21 INVALID# (out), 22 FORCEOFF# (in), 23 FORCEON (in)
part B pins: 1 C2+ (power), 2 C2- (power), 3 V- (power), 24 C1- (power), 25 GND (power), 26 VCC (power), 27 V+ (power), 28 C1+ (power)

## IC-TI-SN74LVC1G17
designator IC?, comment SN74LVC1G17
Single Schmitt-Trigger Buffer; Manufacturer Name: Texas Instruments; Manufacturer Part No.: SN74LVC1G17
footprint SOT65P210X110-5N
pins: 1 NC, 2 A (in), 3 GND (power), 4 Y (out), 5 VCC (power)

## IC-TI-TL317CDR
designator IC?, comment TL317CDR
TL317CDR LDO Regulator; Manufacturer Name: Texas Instruments; Manufacturer Part No.: TL317CDR
footprint SOIC127P600X173-8N
pins: 1 Vin, 2 Vout, 3 Vout, 4 ADJ, 5 NC, 6 Vout, 7 Vout, 8 NC

## IC-TI-TPS2042BD
designator IC?, comment TPS2042BD
Dual High Side Switch With OC_DET 500mA/CH; Manufacturer Name: Texas Instruments; Manufacturer Part No.: TPS2042BD
footprint SOIC127P600X173-8N
pins: 1 GND (power), 2 V_IN (power), 3 EN_1# (in), 4 EN_2# (in), 5 OC_2# (out), 6 OUT_2 (out), 7 OUT_1 (out), 8 OC_1# (out)

## IC-TI-TPS2052BD
designator IC?, comment TPS2052BD
Dual High Side Switch With OC_DET 500mA/CH; Manufacturer Name: Texas Instruments; Manufacturer Part No.: TPS2052BD
footprint SOIC127P600X173-8N
pins: 1 GND (power), 2 V_IN (power), 3 EN_1 (in), 4 EN_2 (in), 5 OC_2# (out), 6 OUT_2 (out), 7 OUT_1 (out), 8 OC_1# (out)

## IC-TI-TPS51120
designator IC?, comment TPS51120
Power Supply Controller; Manufacturer Name: Texas Instruments; Manufacturer Part No.: TPS51120
footprint QFN50P500X500X100-33N
part A pins: 4 VREF2 (out), 5 GND (power), 9 EN5 (in), 10 EN3 (in), 19 VREG3 (out), 20 V5FILT (power), 21 VREG5 (out), 22 VIN (power), 31 TONSEL (in), 32 GND (power), 33 HS
part B pins: 1 VO (in), 2 COMP (out), 3 VFB (in), 23 CS (in), 24 PGND (power), 25 DRVL (out), 26 LL (io), 27 DRVH (out), 28 VBST (power), 29 EN (in), 30 PGOOD (out)
part C pins: 6 VFB (in), 7 COMP (out), 8 VO (in), 11 PGOOD (out), 12 EN (in), 13 VBST, 14 DRVH (out), 15 LL (io), 16 DRVL (out), 17 PGND (power), 18 CS (in)
part A text: 100mA nom.; 200mA max.!

## IF-Vishay-TFDU4101
designator X?  Manufacturer Part No.: TFDU4101
Vishay TFDU4101 Infrared Transceiver; Manufacturer Name: Vishay
footprint T_Vishay_TFDU4101 (Infrared Transceiver Module)
pins: 1 LED_A, 2 LED_K, 3 TXD, 4 RXD, 5 SD, 6 VCC, 7 NC, 8 GND

## L-220R@100MHz-2A-25%-0603
designator L?, comment 220R@100MHz
220R@100MHz 2A EMI FILTER; Tolerance: 25%; Rating: 2A; Value: 220R@100MHz
footprint INDC1608X95N
pins: 1, 2

## L-220R@100MHz-500mA-25%-0603
designator L?, comment 220R@100MHz
220R@100MHz 500mA EMI FILTER; Tolerance: 25%; Rating: 500mA; Value: 220R@100MHz
footprint INDC1608X95N
pins: 1, 2

## L-Laird-35F0121-0SR-10-10A-25%
designator L?, comment 36R@100MHz
Power Supply FB 10A; Tolerance: 25%; Rating: 10A; Value: 36R@100MHz
footprint T_Laird_35F0121-0SR-10 (Power supply FB 10A)
pins: 1, 2

## L-Murata-DLW21SN900SQ2-90R@100MHz-330mA-25%
designator L?, comment 90R@100MHz
Common Mode Choke High Speed 90R 330mA; Manufacturer Name: Murata; Manufacturer Part No.: DLW21SN900SQ2; Tolerance: 25%; Rating: 330mA; Value: 90R@100MHz
footprint T_Murata_DLW21SN900SQ2 (Common Mode Choke)
pins: 1, 2, 3, 4

## L-Panasonic-EXC-ML20A390U-39R@100MHz-4A-25%-0805
designator L?, comment 39R@100MHz
39R@100MHz 4A EMI FILTER; Manufacturer Name: Panasonic; Manufacturer Name: EXC-ML20A390U; Tolerance: 25%; Rating: 4A; Value: 39R@100MHz
footprint INDC2013X130N
pins: 1, 2

## L-Steward-CM3322X630R-63R@100MHz-10A-25%
designator L?, comment 63R@100MHz
Common Mode Choke 63R 10A; Manufacturer Name: Steward; Manufacturer Part No.: CM3322X630R-10; Tolerance: 25%; Rating: 10A; Value: 63R@100MHz
footprint T_Steward_CM3322X630R-10 (Common Mode Choke)
pins: 1, 2, 3, 4

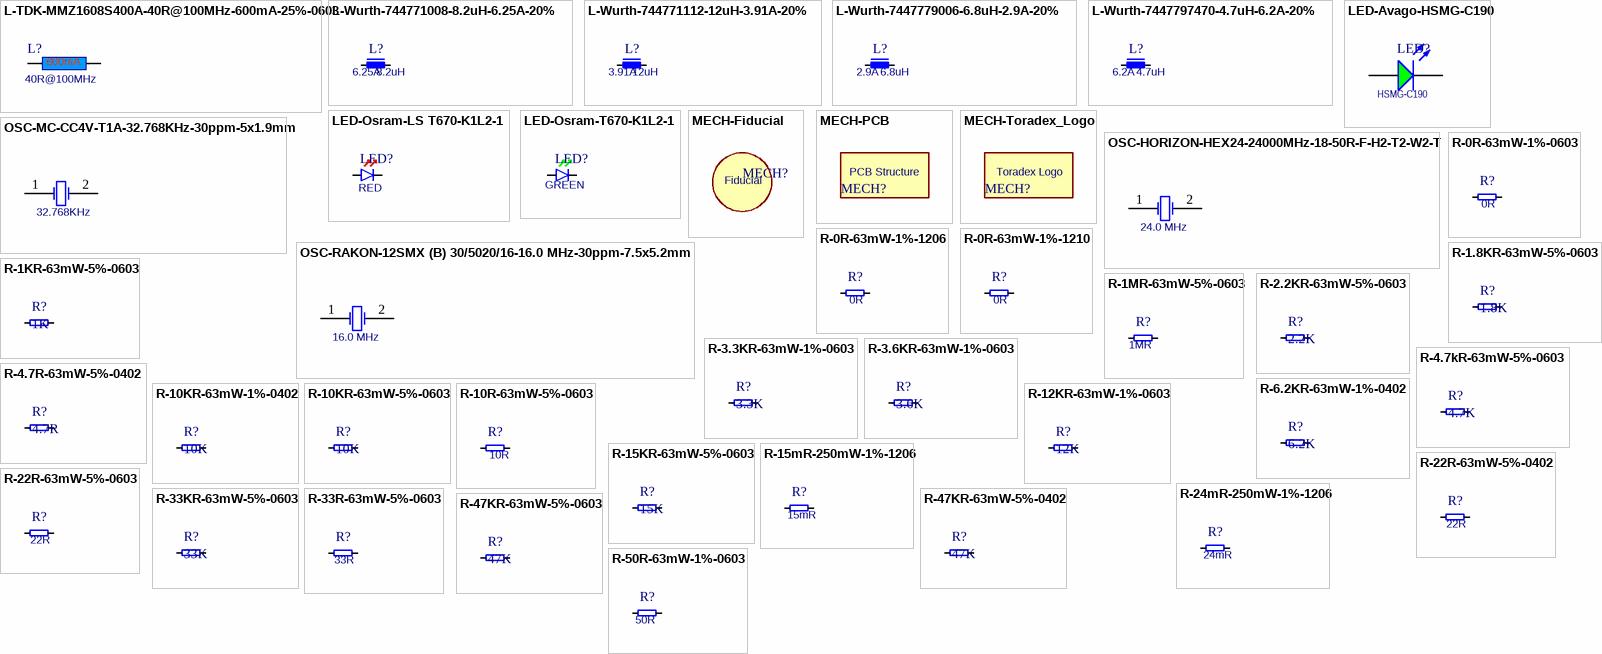
[diagram p8: symbols L-TDK-MMZ1608S400A-40R@100MHz-600mA-25%-0603 to R-50R-63mW-1%-0603]

## L-TDK-MMZ1608S400A-40R@100MHz-600mA-25%-0603
designator L?, comment 40R@100MHz
40R@100MHz 600mA EMI FILTER; Manufacturer Part No.: MMZ1608S400A; Manufacturer Name: TDK; Tolerance: 25%; Rating: 600mA; Value: 40R@100MHz
footprint INDC1608X95N
pins: 1, 2

## L-Wurth-744771008-8.2uH-6.25A-20%
designator L?, comment Rating: 6.25A  (hidden comment: 8.2uH)
Inductance 8.2uH 6.25A 20%; Manufacturer Name: Wurth; Manufacturer Part No.: 744771008; Tolerance: 20%; Value: 8.2uH
footprint T_INDM120120X80N
pins: 1, 2

## L-Wurth-744771112-12uH-3.91A-20%
designator L?, comment Rating: 3.91A  (hidden comment: 12uH)
Inductance 12uH 3.91A 20%; Manufacturer Name: Wurth; Manufacturer Part No.: 744771112; Tolerance: 20%; Value: 12uH
footprint T_INDM120120X80N
pins: 1, 2

## L-Wurth-7447779006-6.8uH-2.9A-20%
designator L?, comment Rating: 2.9A  (hidden comment: 6.8uH)
Inductance 6.8uH 2.9A 20%; Manufacturer Name: Wurth; Manufacturer Part No.: 7447779006; Tolerance: 20%; Value: 6.8uH
footprint T_INDM7373X45N
pins: 1, 2

## L-Wurth-7447797470-4.7uH-6.2A-20%
designator L?, comment Rating: 6.2A  (hidden comment: 4.7uH)
Inductance 4.7uH 6.2A 20%; Manufacturer Name: Wurth; Manufacturer Part No.: 7447797470; Tolerance: 20%; Value: 4.7uH
footprint T_INDM102102X45N
pins: 1, 2

## LED-Avago-HSMG-C190
designator LED?, comment Manufacturer Part No.: HSMG-C190  (hidden comment: LED)
Surface mount LED green 20mA; Manufacturer Name: Avago
footprint LEDC1608X80N
pins: 1 K, 2 A

## LED-Osram-LS T670-K1L2-1
designator LED?, comment Color: RED  (hidden comment: LS T670-K1L2-1)
LED red, Osram LS T670-K1L2-1; Manufacturer Part N.: LS T670-K1L2-1; Manufacturer Name: Osram
footprint T_Osram_T670_RED (LED-Osram-T670)
pins: A, K

## LED-Osram-T670-K1L2-1
designator LED?, comment Color: GREEN  (hidden comment: LG T670-K1L2-1)
LED green Osram LG T670-K1L2-1; Manufacturer Name: Osram; Manufacturer Part N.: LG T670-K1L2-1
footprint T_Osram_T670_GREEN (LED-Osram-T670)
pins: A, K

## MECH-Fiducial
designator MECH?  (value not drawn)
Fiducial
footprint T_Fiducial (Fiducial)

## MECH-PCB
designator MECH?  (value not drawn)
PCB Structure
footprint PCB (PCB Holes)

## MECH-Toradex_Logo
designator MECH?  (value not drawn)
Toradex_Logo
footprint T_TORADEX_LOGO (Toradex Logo)
text: Toradex Logo

## OSC-HORIZON-HEX24-24000MHz-18-50R-F-H2-T2-W2-T
designator OSC?, comment value 24.0 MHz  (hidden comment: HEX24-24000MHz-18-50R-F-H2-T2-W2-T)
Quartz 24.0 MHz; Manufacturer Name: HORIZON; Tolerance: 30ppm; Manufacturer Part No.: HEX24-24000MHz-18-50R-F-H2-T2-W2-T
footprint T_HORIZON-HEX24 (OSC)
pins: 1 OSC1, 2 OSC2

## OSC-MC-CC4V-T1A-32.768KHz-30ppm-5x1.9mm
designator OSC?, comment value 32.768KHz  (hidden comment: CC4V-T1A)
Quartz 32.768kHz; Manufacturer Name: Micro Crystal; Tolerance: 30ppm; Manufacturer Part No.: CC4V-T1A
footprint T_MC_CC4V-T1A
pins: 1 OSC1, 2 OSC2

## OSC-RAKON-12SMX (B) 30/5020/16-16.0 MHz-30ppm-7.5x5.2mm
designator OSC?, comment value 16.0 MHz  (hidden comment: 12SMX (B) 30/5020/16)
Quartz 16.0 MHz; Manufacturer Name: RAKON; Tolerance: 30ppm; Manufacturer Part No.: 12SMX (B) 30/5020/16
footprint T_RAKON_12SMX (OSC)
pins: 1 OSC1, 2 OSC2

## R-0R-63mW-1%-0603
designator R?, comment 0R
Resistor 0 ohm 63mW 1% 0603; Rating: 63mW; Tolerance: 1%; Value: 0R
footprint T_RESC0603X30N
pins: 1, 2

## R-0R-63mW-1%-1206
designator R?, comment 0R
Resistor 0 ohm 63mW 1% 1206; Rating: 63mW; Tolerance: 1%; Value: 0R
footprint T_RESC3216X760N
pins: 1, 2

## R-0R-63mW-1%-1210
designator R?, comment 0R
Resistor 0 ohm 63mW 1% 1210; Rating: 63mW; Tolerance: 1%; Value: 0R
footprint T_RESC3225X30N
pins: 1, 2

## R-1.8KR-63mW-5%-0603
designator R?, comment 1.8K
Resistor 1.8 Kohm 63mW 5% 0603; Value: 1.8KR; Rating: 63mW; Tolerance: 5%
footprint T_RESC0603X30N
pins: 1, 2

## R-1KR-63mW-5%-0603
designator R?, comment 1K
Resistor 1 Kohm 63mW 5% 0603; Rating: 63mW; Tolerance: 5%; Value: 1K
footprint T_RESC0603X30N
pins: 1, 2